# Altium integrated library PowerProducts.IntLib: 595 symbols (part 2 of 6)
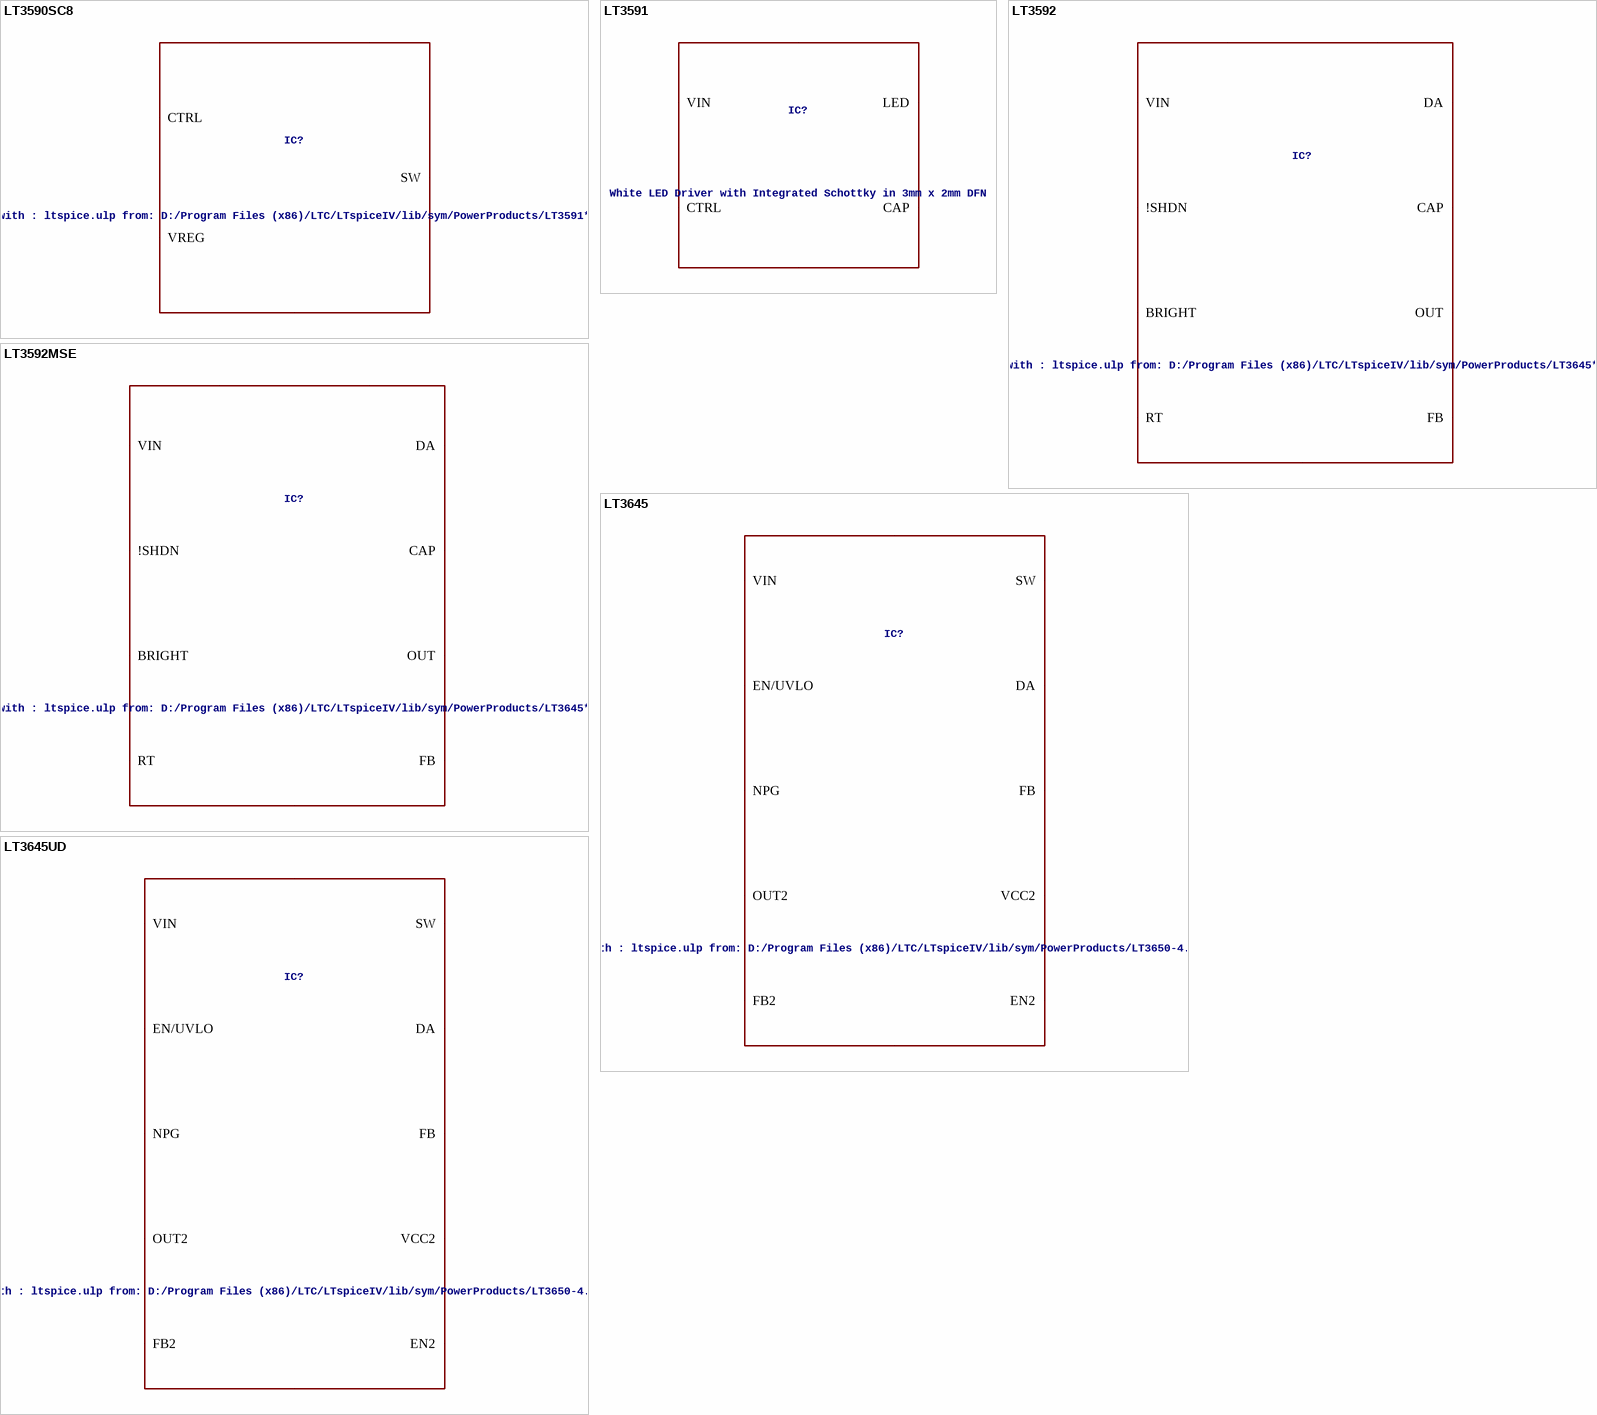
[diagram p113: symbols LT3590SC8 to LT3645UD]

## LT3592MSE
designator IC?, comment LT-Spice library generated with : ltspice.ulp from: D:/Program Files (x86)/LTC/LTspiceIV/lib/sym/PowerProducts/LT3645*.asy at 07.10.2012 16:21:44
VALUE2: LT3592; SPICEMODEL: LT3592.sub; SPICEPREFIX: X
footprint MSOP10(MSE)
pins: 1 RT, 2 BRIGHT, 3 !SHDN, 4 VIN, 5 DA, 6 SW, 7 BOOST, 8 CAP, 9 OUT, 10 FB, 11 GND

## LT3645
designator IC?, comment LT-Spice library generated with : ltspice.ulp from: D:/Program Files (x86)/LTC/LTspiceIV/lib/sym/PowerProducts/LT3650-4.1*.asy at 07.10.2012 16:22:44
VALUE2: LT3645; SPICEMODEL: LT3645.sub; SPICEPREFIX: X
footprint MSOP12(MSE)
pins: 1 EN/UVLO, 2 FB, 3 13 GND, 4 DA, 5 BOOST, 6 SW, 7 VIN, 8 VCC2, 9 OUT2, 10 FB2, 11 EN2, 12 NPG

## LT3645UD
designator IC?, comment LT-Spice library generated with : ltspice.ulp from: D:/Program Files (x86)/LTC/LTspiceIV/lib/sym/PowerProducts/LT3650-4.1*.asy at 07.10.2012 16:22:44
VALUE2: LT3645; SPICEMODEL: LT3645.sub; SPICEPREFIX: X
footprint QFN16(UD)
pins: 3 NPG, 4 EN2, 5 EN/UVLO, 6 FB, 7 17 GND, 8 DA, 9 SW, 10 BOOST, 11 VIN, 14 VCC2, 15 OUT2, 16 FB2

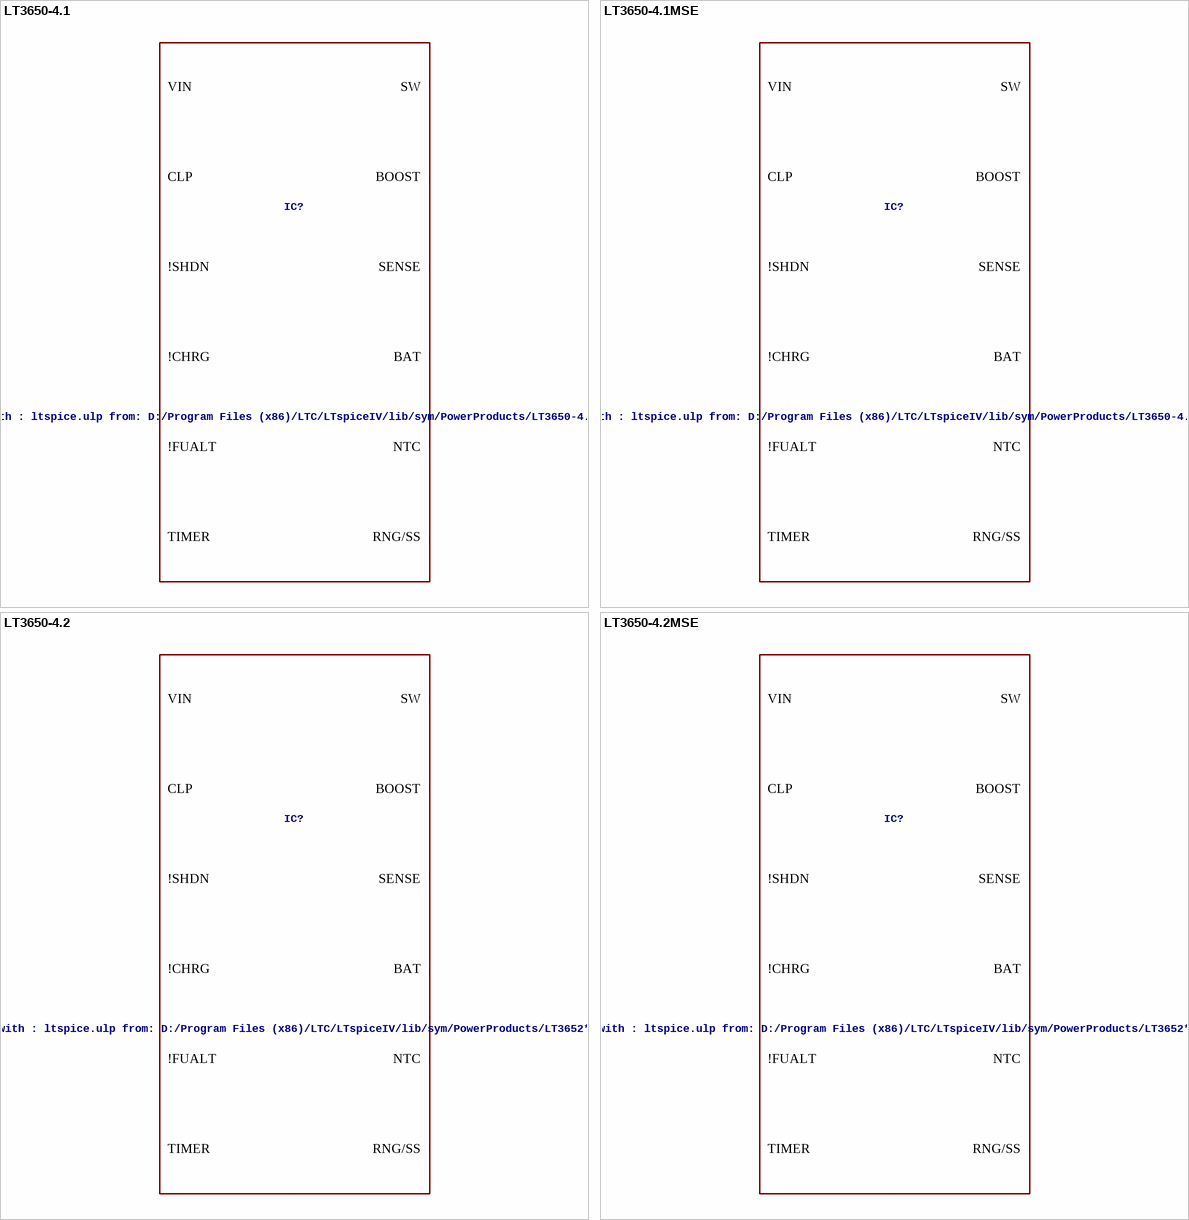
[diagram p20: symbols LT3650-4.1 to LT3650-4.2MSE]

## LT3650-4.1
designator IC?, comment LT-Spice library generated with : ltspice.ulp from: D:/Program Files (x86)/LTC/LTspiceIV/lib/sym/PowerProducts/LT3650-4.2*.asy at 07.10.2012 16:22:54
VALUE2: LT3650-4.1; SPICEMODEL: LT3650-4.1.sub; SPICEPREFIX: X
footprint DFN12(DD)
pins: 1 VIN, 2 CLP, 3 !SHDN, 4 !CHRG, 5 !FUALT, 6 TIMER, 7 RNG/SS, 8 NTC, 9 BAT, 10 SENSE, 11 BOOST, 12 SW, 13 GND

## LT3650-4.1MSE
designator IC?, comment LT-Spice library generated with : ltspice.ulp from: D:/Program Files (x86)/LTC/LTspiceIV/lib/sym/PowerProducts/LT3650-4.2*.asy at 07.10.2012 16:22:54
VALUE2: LT3650-4.1; SPICEMODEL: LT3650-4.1.sub; SPICEPREFIX: X
footprint MSOP12(MSE)
pins: 1 VIN, 2 CLP, 3 !SHDN, 4 !CHRG, 5 !FUALT, 6 TIMER, 7 RNG/SS, 8 NTC, 9 BAT, 10 SENSE, 11 BOOST, 12 SW, 13 GND

## LT3650-4.2
designator IC?, comment LT-Spice library generated with : ltspice.ulp from: D:/Program Files (x86)/LTC/LTspiceIV/lib/sym/PowerProducts/LT3652*.asy at 07.10.2012 16:23:18
VALUE2: LT3650-4.2; SPICEMODEL: LT3650-4.2.sub; SPICEPREFIX: X
footprint DFN12(DD)
pins: 1 VIN, 2 CLP, 3 !SHDN, 4 !CHRG, 5 !FUALT, 6 TIMER, 7 RNG/SS, 8 NTC, 9 BAT, 10 SENSE, 11 BOOST, 12 SW, 13 GND

## LT3650-4.2MSE
designator IC?, comment LT-Spice library generated with : ltspice.ulp from: D:/Program Files (x86)/LTC/LTspiceIV/lib/sym/PowerProducts/LT3652*.asy at 07.10.2012 16:23:18
VALUE2: LT3650-4.2; SPICEMODEL: LT3650-4.2.sub; SPICEPREFIX: X
footprint MSOP12(MSE)
pins: 1 VIN, 2 CLP, 3 !SHDN, 4 !CHRG, 5 !FUALT, 6 TIMER, 7 RNG/SS, 8 NTC, 9 BAT, 10 SENSE, 11 BOOST, 12 SW, 13 GND

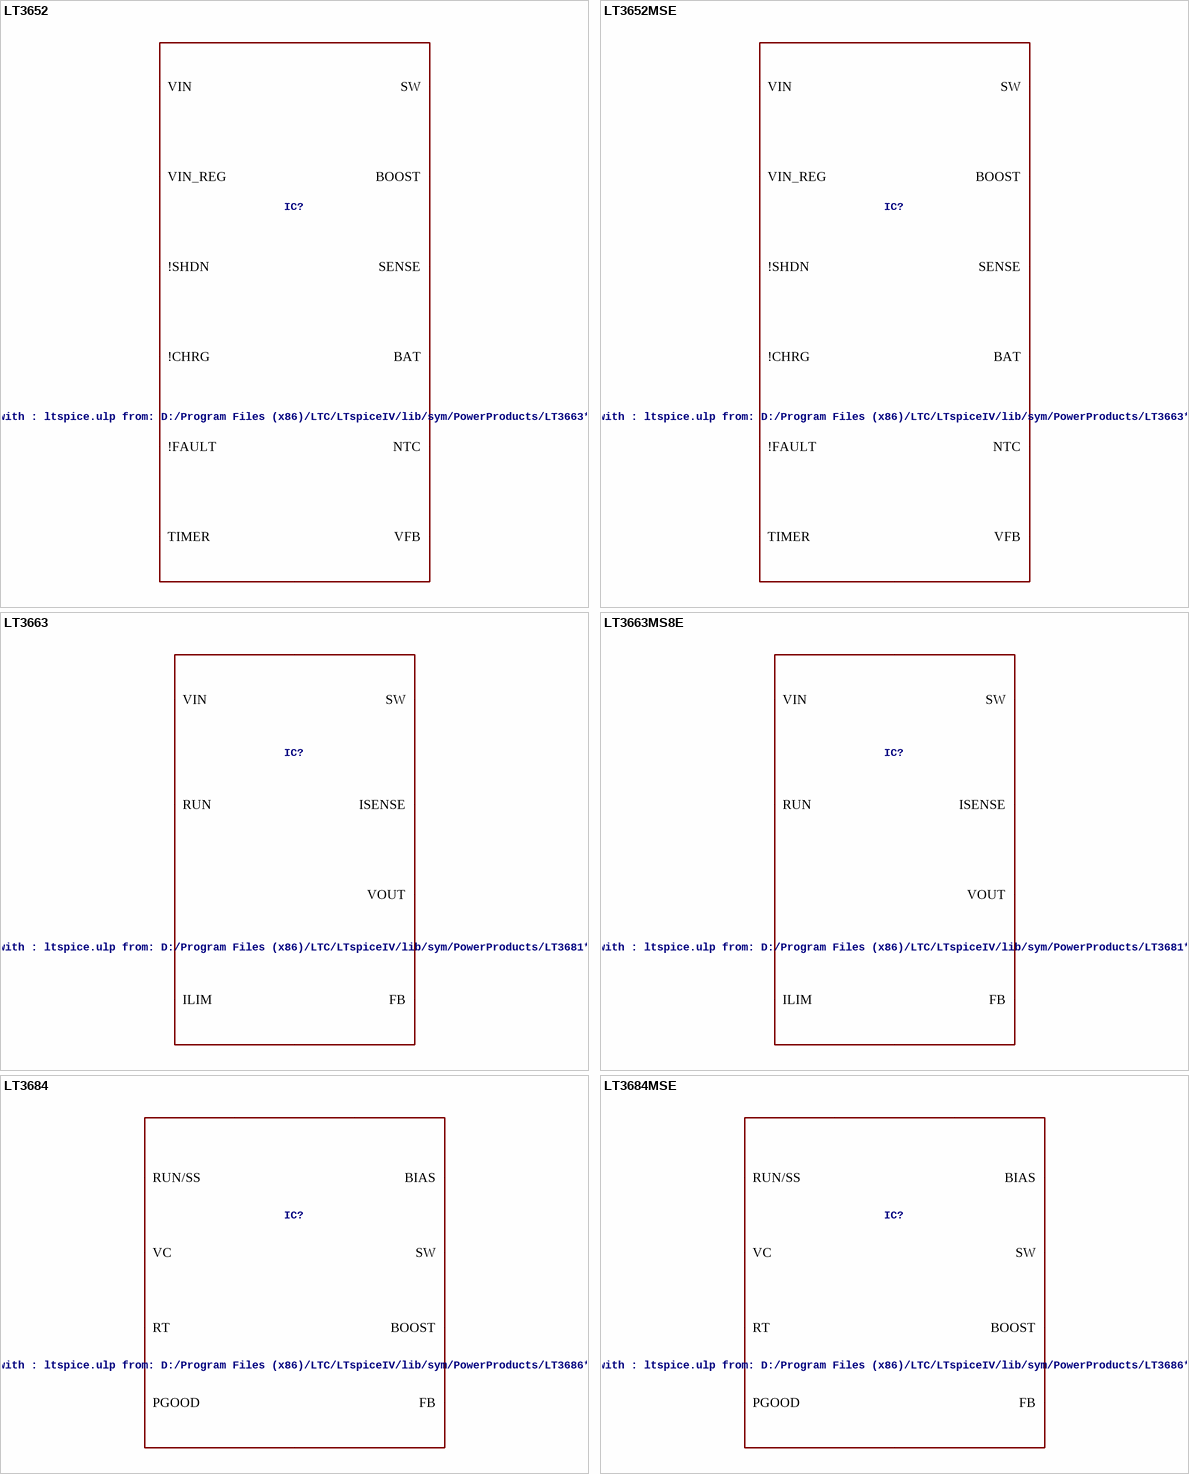
[diagram p21: symbols LT3652 to LT3684MSE]

## LT3652
designator IC?, comment LT-Spice library generated with : ltspice.ulp from: D:/Program Files (x86)/LTC/LTspiceIV/lib/sym/PowerProducts/LT3663*.asy at 07.10.2012 16:23:33
VALUE2: LT3652; SPICEMODEL: LT3652.sub; SPICEPREFIX: X
footprint DFN12(DD)
pins: 1 VIN, 2 VIN_REG, 3 !SHDN, 4 !CHRG, 5 !FAULT, 6 TIMER, 7 VFB, 8 NTC, 9 BAT, 10 SENSE, 11 BOOST, 12 SW, 13 GND

## LT3652MSE
designator IC?, comment LT-Spice library generated with : ltspice.ulp from: D:/Program Files (x86)/LTC/LTspiceIV/lib/sym/PowerProducts/LT3663*.asy at 07.10.2012 16:23:33
VALUE2: LT3652; SPICEMODEL: LT3652.sub; SPICEPREFIX: X
footprint MSOP12(MSE)
pins: 1 VIN, 2 VIN_REG, 3 !SHDN, 4 !CHRG, 5 !FAULT, 6 TIMER, 7 VFB, 8 NTC, 9 BAT, 10 SENSE, 11 BOOST, 12 SW, 13 GND

## LT3663
designator IC?, comment LT-Spice library generated with : ltspice.ulp from: D:/Program Files (x86)/LTC/LTspiceIV/lib/sym/PowerProducts/LT3681*.asy at 07.10.2012 16:31:01
VALUE2: LT3663; SPICEMODEL: LT3663.sub; SPICEPREFIX: X
footprint DFN8(DCB)
pins: 1 VIN, 2 RUN, 3 FB, 4 ILIM, 5 VOUT, 6 ISENSE, 7 BOOST, 8 SW, 9 GND

## LT3663MS8E
designator IC?, comment LT-Spice library generated with : ltspice.ulp from: D:/Program Files (x86)/LTC/LTspiceIV/lib/sym/PowerProducts/LT3681*.asy at 07.10.2012 16:31:01
VALUE2: LT3663; SPICEMODEL: LT3663.sub; SPICEPREFIX: X
footprint MSOP8(MS8E)
pins: 1 VIN, 2 RUN, 3 FB, 4 ILIM, 5 VOUT, 6 ISENSE, 7 BOOST, 8 SW, 9 GND

## LT3684
designator IC?, comment LT-Spice library generated with : ltspice.ulp from: D:/Program Files (x86)/LTC/LTspiceIV/lib/sym/PowerProducts/LT3686*.asy at 07.10.2012 16:34:33
VALUE2: LT3684; SPICEMODEL: LT3684.sub; SPICEPREFIX: X
footprint DFN10(DD)
pins: 1 BD, 2 BOOST, 3 SW, 4 VIN, 5 RUN/SS, 6 PGOOD, 7 BIAS, 8 FB, 9 VC, 10 RT, 11 GND

## LT3684MSE
designator IC?, comment LT-Spice library generated with : ltspice.ulp from: D:/Program Files (x86)/LTC/LTspiceIV/lib/sym/PowerProducts/LT3686*.asy at 07.10.2012 16:34:33
VALUE2: LT3684; SPICEMODEL: LT3684.sub; SPICEPREFIX: X
footprint MSOP10(MSE)
pins: 1 BD, 2 BOOST, 3 SW, 4 VIN, 5 RUN/SS, 6 PGOOD, 7 BIAS, 8 FB, 9 VC, 10 RT, 11 GND

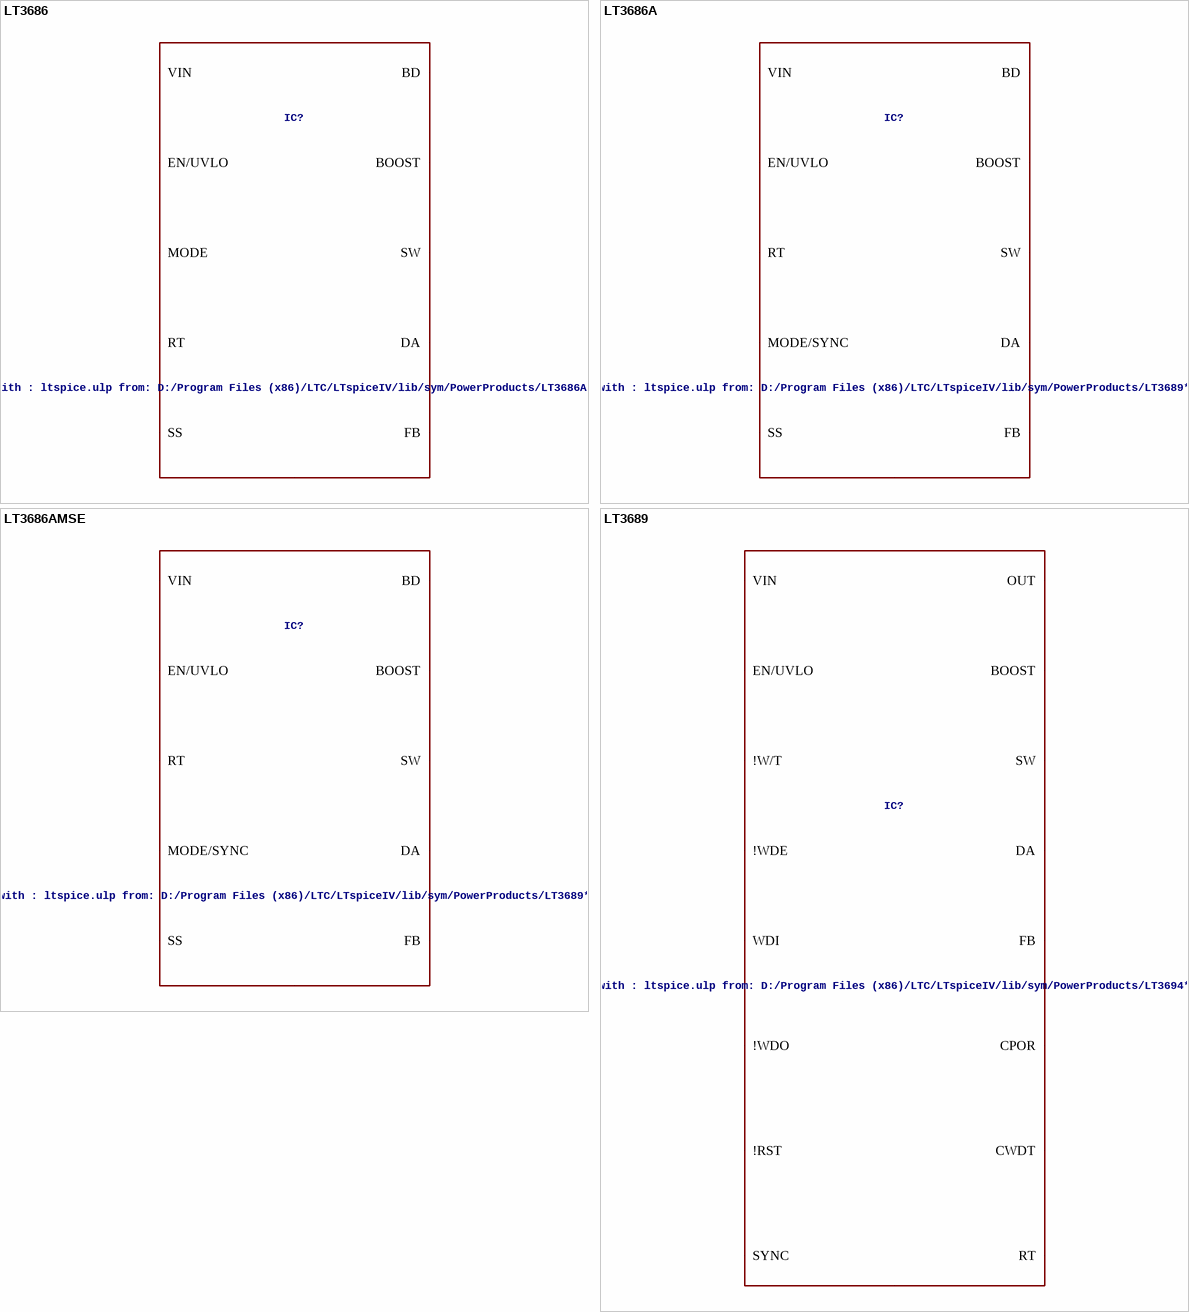
[diagram p22: symbols LT3686 to LT3689]

## LT3686
designator IC?, comment LT-Spice library generated with : ltspice.ulp from: D:/Program Files (x86)/LTC/LTspiceIV/lib/sym/PowerProducts/LT3686A*.asy at 07.10.2012 16:34:43
VALUE2: LT3686; SPICEMODEL: LT3686.sub; SPICEPREFIX: X
footprint DFN10(DD)
pins: 1 VIN, 2 BD, 3 FB, 4 SS, 5 RT, 6 EN/UVLO, 7 MODE, 8 BOOST, 9 DA, 10 SW, 11 GND

## LT3686A
designator IC?, comment LT-Spice library generated with : ltspice.ulp from: D:/Program Files (x86)/LTC/LTspiceIV/lib/sym/PowerProducts/LT3689*.asy at 07.10.2012 16:34:52
VALUE2: LT3686A; SPICEMODEL: LT3686A.sub; SPICEPREFIX: X
footprint DFN10(DD)
pins: 1 VIN, 2 BD, 3 FB, 4 SS, 5 RT, 6 EN/UVLO, 7 MODE/SYNC, 8 BOOST, 9 DA, 10 SW, 11 GND

## LT3686AMSE
designator IC?, comment LT-Spice library generated with : ltspice.ulp from: D:/Program Files (x86)/LTC/LTspiceIV/lib/sym/PowerProducts/LT3689*.asy at 07.10.2012 16:34:52
VALUE2: LT3686A; SPICEMODEL: LT3686A.sub; SPICEPREFIX: X
footprint MSOP12(MSE)
pins: 1 13 GND, 2 VIN, 3 BD, 4 FB, 5 SS, 6 RT, 7 EN/UVLO, 8 MODE/SYNC, 9 BOOST, 10 DA, 11 12 SW

## LT3689
designator IC?, comment LT-Spice library generated with : ltspice.ulp from: D:/Program Files (x86)/LTC/LTspiceIV/lib/sym/PowerProducts/LT3694*.asy at 07.10.2012 16:35:03
VALUE2: LT3689; SPICEMODEL: LT3689.sub; SPICEPREFIX: X
footprint MSOP16(MSE)
pins: 1 !WDO, 2 CWDT, 3 CPOR, 4 RT, 5 SYNC, 6 OUT, 7 BOOST, 8 VIN, 9 SW, 10 DA, 11 EN/UVLO, 12 FB, 13 !WDE, 14 !W/T, 15 WDI, 16 !RST, 17 GND

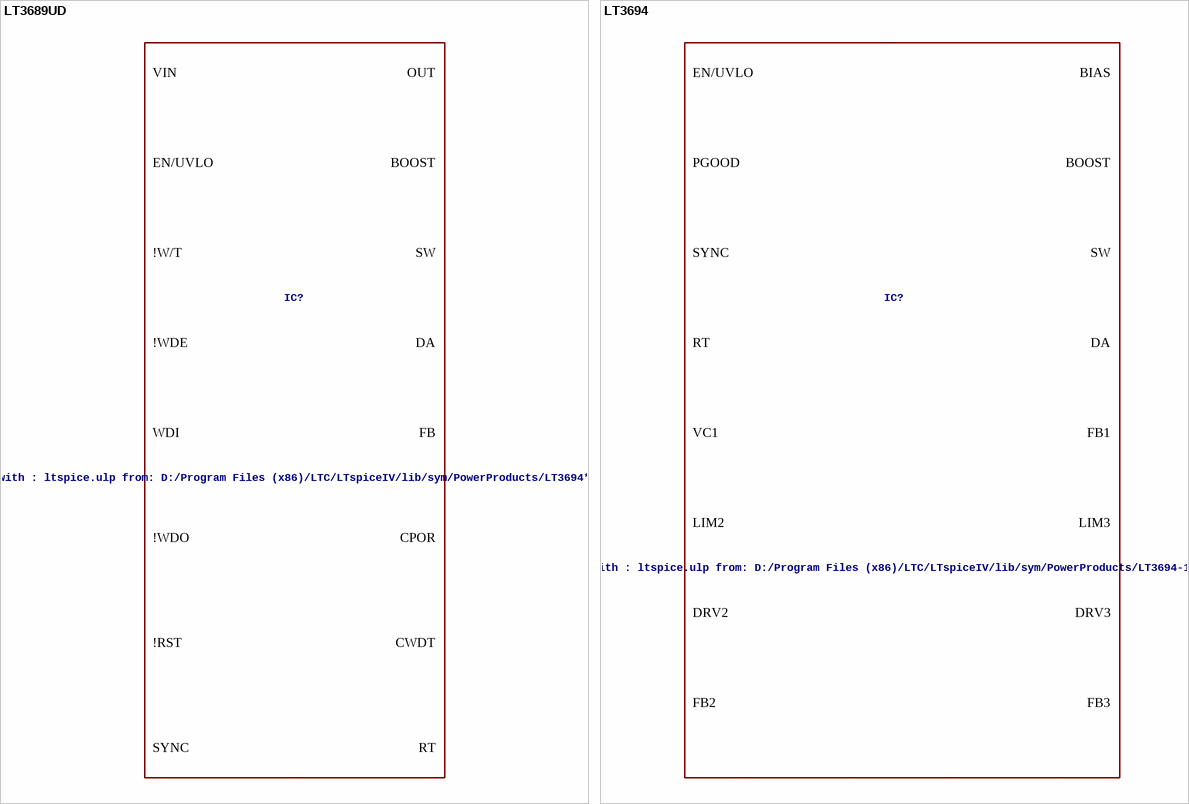
[diagram p23: symbols LT3689UD to LT3694]

## LT3689UD
designator IC?, comment LT-Spice library generated with : ltspice.ulp from: D:/Program Files (x86)/LTC/LTspiceIV/lib/sym/PowerProducts/LT3694*.asy at 07.10.2012 16:35:03
VALUE2: LT3689; SPICEMODEL: LT3689.sub; SPICEPREFIX: X
footprint QFN16(UD)
pins: 1 BOOST, 2 VIN, 3 SW, 4 DA, 5 EN/UVLO, 6 FB, 7 !WDE, 8 !W/T, 9 WDI, 10 !RST, 11 !WDO, 12 CWDT, 13 CPOR, 14 RT, 15 SYNC, 16 OUT, 17 GND

## LT3694
designator IC?, comment LT-Spice library generated with : ltspice.ulp from: D:/Program Files (x86)/LTC/LTspiceIV/lib/sym/PowerProducts/LT3694-1*.asy at 07.10.2012 16:35:16
VALUE2: LT3694; SPICEMODEL: LT3694.sub; SPICEPREFIX: X
footprint TSSOP20CB(FE)
pins: 1 VIN, 2 EN/UVLO, 3 SYNC, 4 PGOOD, 5 RT, 6 TRK/SS1, 7 TRK/SS2, 8 FB2, 9 DRV2, 10 LIM2, 11 LIM3, 12 DRV3, 13 FB3, 14 TRK/SS3, 15 FB1, 16 VC1, 17 BIAS, 18 BOOST, 19 DA, 20 SW, 21 GND

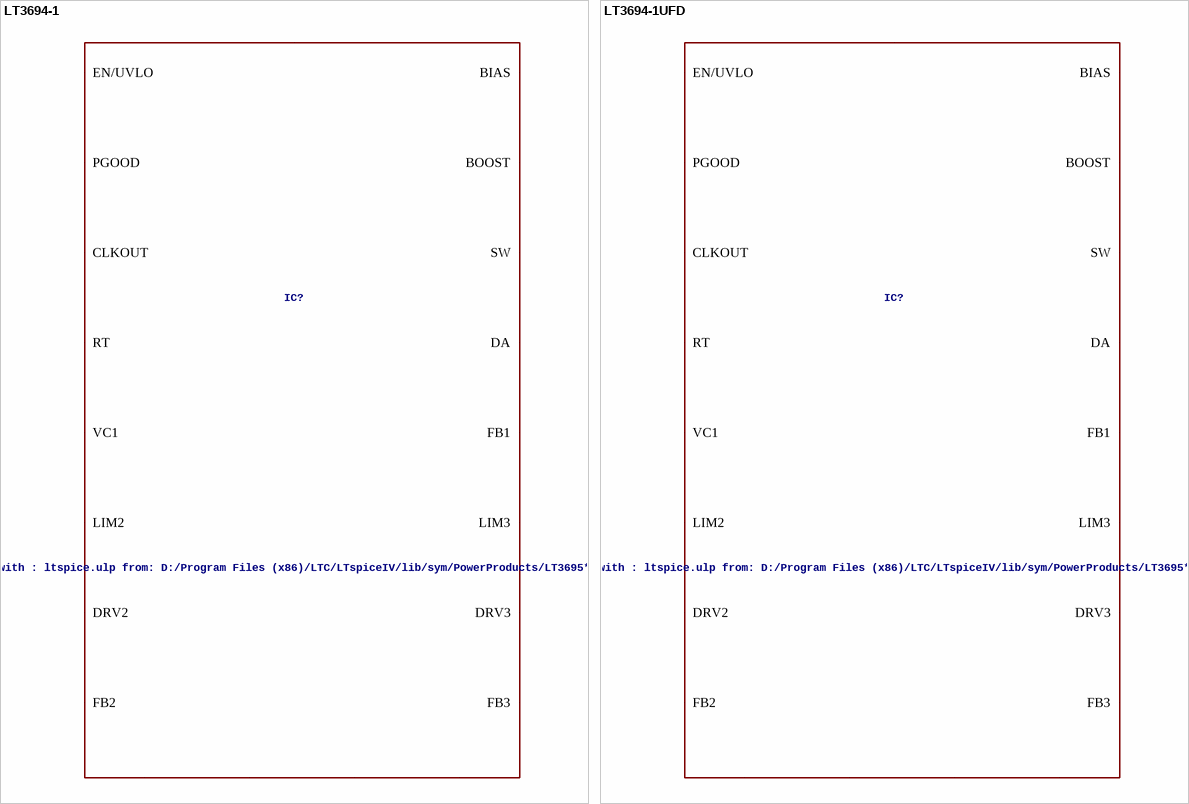
[diagram p24: symbols LT3694-1 to LT3694-1UFD]

## LT3694-1
designator IC?, comment LT-Spice library generated with : ltspice.ulp from: D:/Program Files (x86)/LTC/LTspiceIV/lib/sym/PowerProducts/LT3695*.asy at 07.10.2012 16:35:30
VALUE2: LT3694-1; SPICEMODEL: LT3694-1.sub; SPICEPREFIX: X
footprint TSSOP20CB(FE)
pins: 1 VIN, 2 EN/UVLO, 3 CLKOUT, 4 PGOOD, 5 RT, 6 TRK/SS1, 7 TRK/SS2, 8 FB2, 9 DRV2, 10 LIM2, 11 LIM3, 12 DRV3, 13 FB3, 14 TRK/SS3, 15 FB1, 16 VC1, 17 BIAS, 18 BOOST, 19 DA, 20 SW, 21 GND

## LT3694-1UFD
designator IC?, comment LT-Spice library generated with : ltspice.ulp from: D:/Program Files (x86)/LTC/LTspiceIV/lib/sym/PowerProducts/LT3695*.asy at 07.10.2012 16:35:30
VALUE2: LT3694-1; SPICEMODEL: LT3694-1.sub; SPICEPREFIX: X
footprint QFN28(UFD)
pins: 1 EN/UVLO, 2 CLKOUT, 3 PGOOD, 4 RT, 5 TRK/SS1, 6 TRK/SS2, 7 FB2, 8 DRV2, 9 LIM2, 10 11 12 13 25 26 29 GND, 14 LIM3, 15 DRV3, 16 FB3, 17 TRK/SS3, 18 FB1, 19 VC1, 20 BIAS, 21 BOOST, 22 DA, 23 24 SW, 27 28 VIN

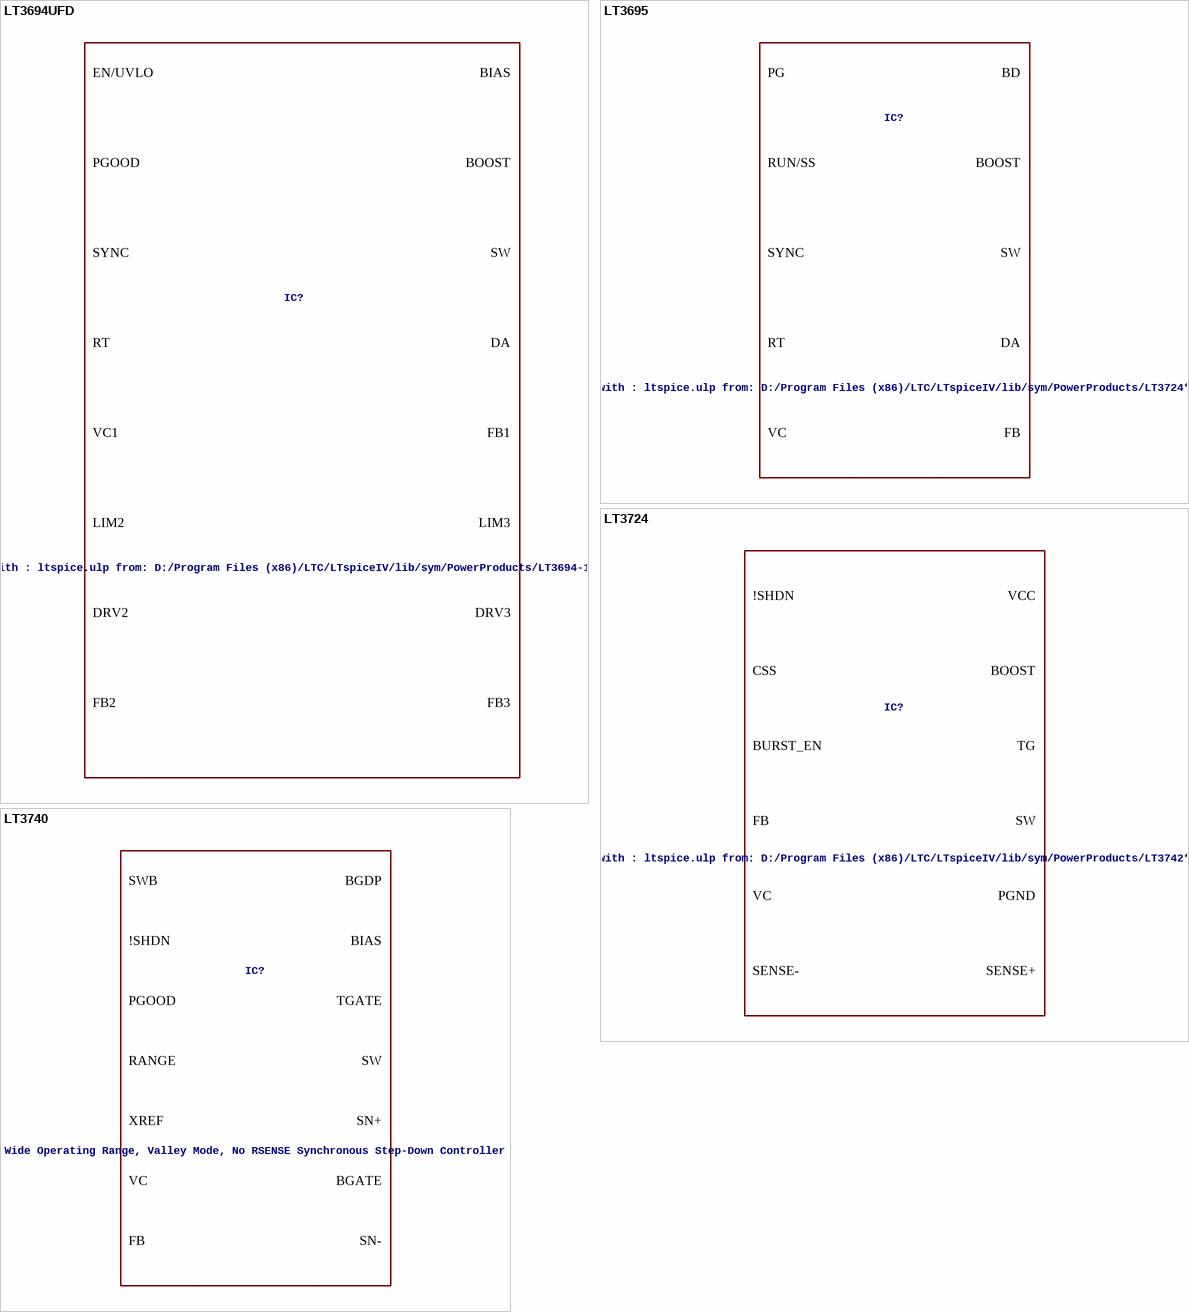
[diagram p25: symbols LT3694UFD to LT3740]

## LT3694UFD
designator IC?, comment LT-Spice library generated with : ltspice.ulp from: D:/Program Files (x86)/LTC/LTspiceIV/lib/sym/PowerProducts/LT3694-1*.asy at 07.10.2012 16:35:16
VALUE2: LT3694; SPICEMODEL: LT3694.sub; SPICEPREFIX: X
footprint QFN28(UFD)
pins: 1 EN/UVLO, 2 SYNC, 3 PGOOD, 4 RT, 5 TRK/SS1, 6 TRK/SS2, 7 FB2, 8 DRV2, 9 LIM2, 10 11 12 13 25 26 29 GND, 14 LIM3, 15 DRV3, 16 FB3, 17 TRK/SS3, 18 FB1, 19 VC1, 20 BIAS, 21 BOOST, 22 DA, 23 24 SW, 27 28 VIN

## LT3695
designator IC?, comment LT-Spice library generated with : ltspice.ulp from: D:/Program Files (x86)/LTC/LTspiceIV/lib/sym/PowerProducts/LT3724*.asy at 07.10.2012 16:35:49
VALUE2: LT3695; SPICEMODEL: LT3695.sub; SPICEPREFIX: X
footprint MSOP16(MSE)
pins: 1 17 PGND, 2 DA, 4 SW, 5 RUN/SS, 6 RT, 7 SYNC, 8 VIN, 9 VC, 11 FB, 13 PG, 14 GND, 15 BD, 16 BOOST

## LT3724
designator IC?, comment LT-Spice library generated with : ltspice.ulp from: D:/Program Files (x86)/LTC/LTspiceIV/lib/sym/PowerProducts/LT3742*.asy at 07.10.2012 16:36:06
VALUE2: LT3724; SPICEMODEL: LT3724.sub; SPICEPREFIX: X
footprint TSSOP16BC(FE)
pins: 1 VIN, 3 !SHDN, 4 CSS, 5 BURST_EN, 6 FB, 7 VC, 8 17 SGND, 9 SENSE-, 10 SENSE+, 11 PGND, 12 VCC, 14 SW, 15 TG, 16 BOOST

## LT3740
designator IC?, comment Wide Operating Range, Valley Mode, No RSENSE Synchronous Step-Down Controller
VALUE2: LT1762; SPICEMODEL: LT1762.lib; SPICEPREFIX: X
footprint DFN16(DHC)
pins: 1 SN-, 2 PGND, 3 BGATE, 4 BGDP, 5 SN+, 6 SW, 7 TGATE, 8 BIAS, 9 SWB, 10 VIN, 11 RANGE, 12 PGOOD, 13 !SHDN, 14 XREF, 15 FB, 16 VC, 17 GND

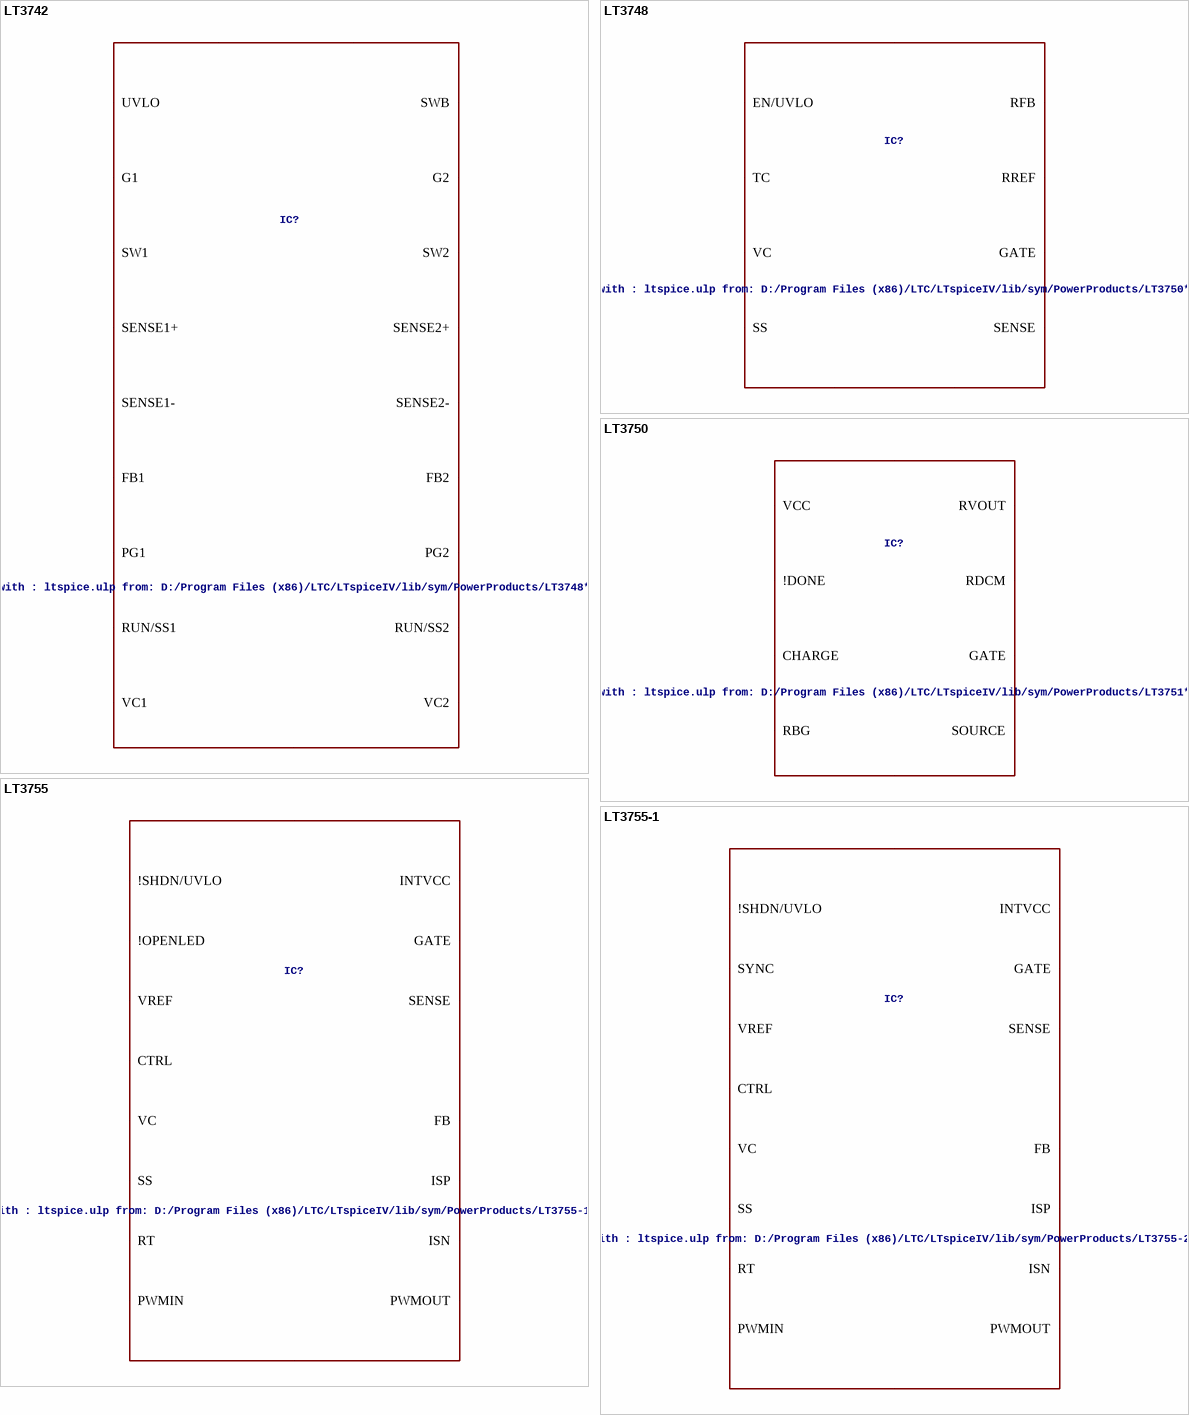
[diagram p26: symbols LT3742 to LT3755-1]

## LT3742
designator IC?, comment LT-Spice library generated with : ltspice.ulp from: D:/Program Files (x86)/LTC/LTspiceIV/lib/sym/PowerProducts/LT3748*.asy at 07.10.2012 16:36:13
VALUE2: LT3742; SPICEMODEL: LT3742.sub; SPICEPREFIX: X
footprint QFN24(UF)
pins: 1 G1, 2 VIN, 3 UVLO, 4 BIAS, 5 SWB, 6 G2, 7 SW2, 10 SENSE2+, 11 SENSE2-, 12 FB2, 13 VC2, 14 PG2, 15 RUN/SS2, 16 RUN/SS1, 17 PG1, 18 VC1, 19 FB1, 20 SENSE1-, 21 SENSE1+, 24 SW1, 25 GND

## LT3748
designator IC?, comment LT-Spice library generated with : ltspice.ulp from: D:/Program Files (x86)/LTC/LTspiceIV/lib/sym/PowerProducts/LT3750*.asy at 07.10.2012 16:36:28
VALUE2: LT3748; SPICEMODEL: LT3748.sub; SPICEPREFIX: X
footprint MSOP16-12(MS)
pins: 1 VIN, 3 EN/UVLO, 5 INTVCC, 6 GATE, 7 SENSE, 8 9 GND, 10 SS, 11 VC, 12 TC, 14 RREF, 16 RFB

## LT3750
designator IC?, comment LT-Spice library generated with : ltspice.ulp from: D:/Program Files (x86)/LTC/LTspiceIV/lib/sym/PowerProducts/LT3751*.asy at 07.10.2012 16:36:34
VALUE2: LT3750; SPICEMODEL: LT3750.sub; SPICEPREFIX: X
footprint MSOP10(MS)
pins: 1 VTRANS, 2 !DONE, 3 CHARGE, 4 VCC, 5 GND, 6 SOURCE, 7 GATE, 8 RDCM, 9 RVOUT, 10 RBG

## LT3755
designator IC?, comment LT-Spice library generated with : ltspice.ulp from: D:/Program Files (x86)/LTC/LTspiceIV/lib/sym/PowerProducts/LT3755-1*.asy at 07.10.2012 16:42:55
VALUE2: LT3755; SPICEMODEL: LT3755.sub; SPICEPREFIX: X
footprint MSOP16(MSE)
pins: 1 PWMOUT, 2 FB, 3 ISN, 4 ISP, 5 VC, 6 CTRL, 7 VREF, 8 PWMIN, 9 !OPENLED, 10 SS, 11 RT, 12 !SHDN/UVLO, 13 INTVCC, 14 VIN, 15 SENSE, 16 GATE, 17 GND

## LT3755-1
designator IC?, comment LT-Spice library generated with : ltspice.ulp from: D:/Program Files (x86)/LTC/LTspiceIV/lib/sym/PowerProducts/LT3755-2*.asy at 07.10.2012 16:43:02
VALUE2: LT3755-1; SPICEMODEL: LT3755-1.sub; SPICEPREFIX: X
footprint MSOP16(MSE)
pins: 1 PWMOUT, 2 FB, 3 ISN, 4 ISP, 5 VC, 6 CTRL, 7 VREF, 8 PWMIN, 9 SYNC, 10 SS, 11 RT, 12 !SHDN/UVLO, 13 INTVCC, 14 VIN, 15 SENSE, 16 GATE, 17 GND

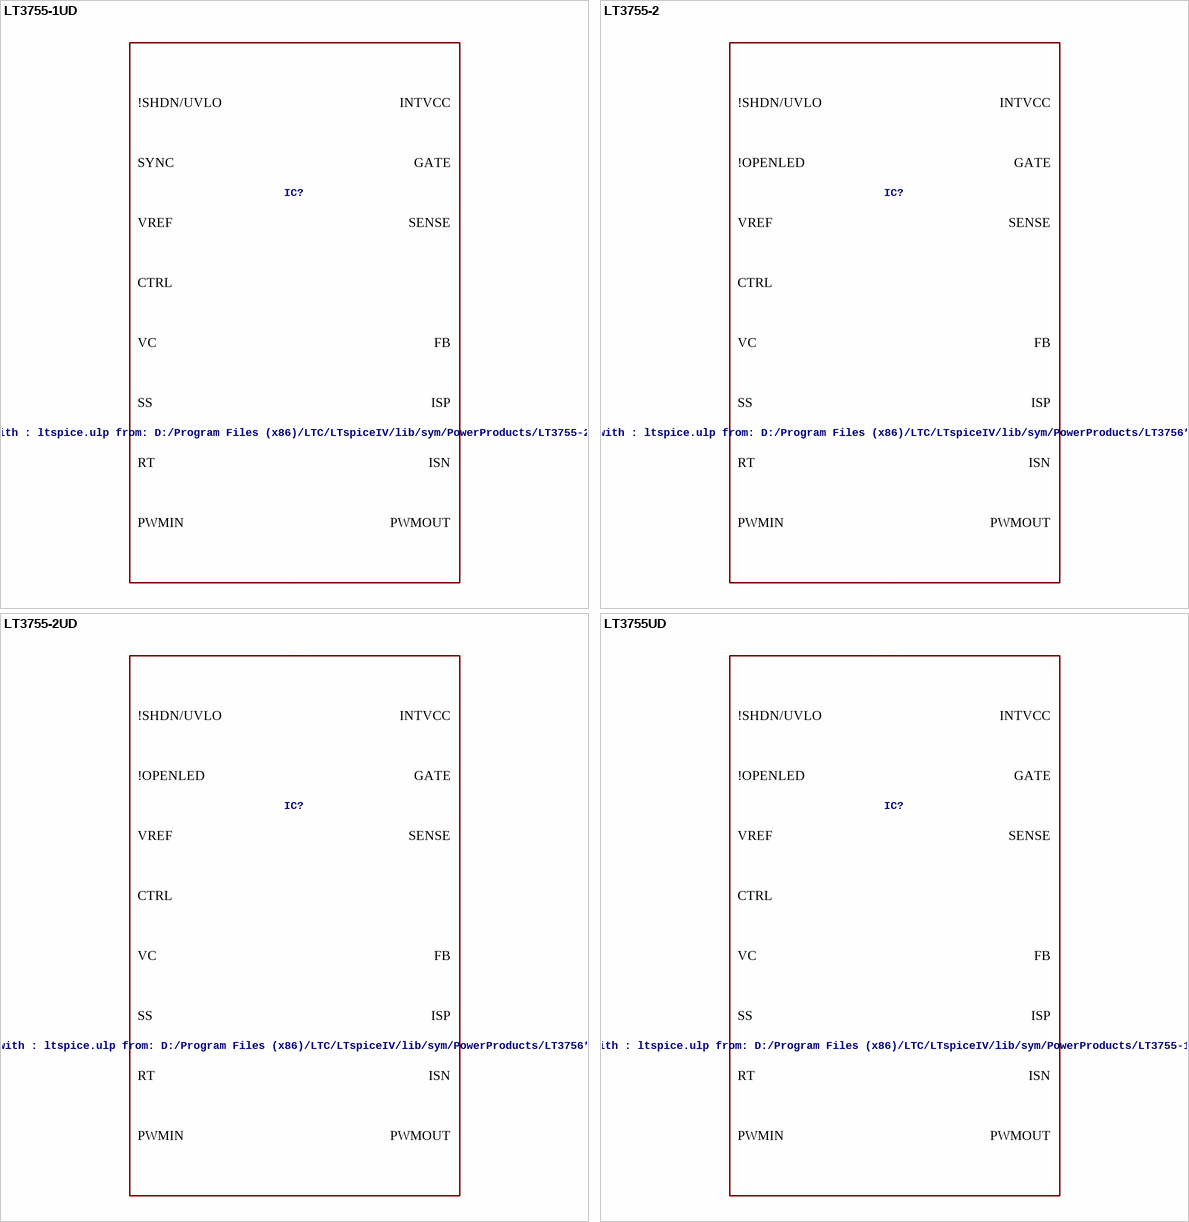
[diagram p27: symbols LT3755-1UD to LT3755UD]

## LT3755-1UD
designator IC?, comment LT-Spice library generated with : ltspice.ulp from: D:/Program Files (x86)/LTC/LTspiceIV/lib/sym/PowerProducts/LT3755-2*.asy at 07.10.2012 16:43:02
VALUE2: LT3755-1; SPICEMODEL: LT3755-1.sub; SPICEPREFIX: X
footprint QFN16(UD)
pins: 1 VREF, 2 PWMIN, 3 SYNC, 4 SS, 5 RT, 6 !SHDN/UVLO, 7 INTVCC, 8 VIN, 9 SENSE, 10 GATE, 11 PWMOUT, 12 FB, 13 ISN, 14 ISP, 15 VC, 16 CTRL, 17 GND

## LT3755-2
designator IC?, comment LT-Spice library generated with : ltspice.ulp from: D:/Program Files (x86)/LTC/LTspiceIV/lib/sym/PowerProducts/LT3756*.asy at 07.10.2012 16:43:11
VALUE2: LT3755; SPICEMODEL: LT3755.sub; SPICEPREFIX: X
footprint MSOP16(MSE)
pins: 1 PWMOUT, 2 FB, 3 ISN, 4 ISP, 5 VC, 6 CTRL, 7 VREF, 8 PWMIN, 9 !OPENLED, 10 SS, 11 RT, 12 !SHDN/UVLO, 13 INTVCC, 14 VIN, 15 SENSE, 16 GATE, 17 GND

## LT3755-2UD
designator IC?, comment LT-Spice library generated with : ltspice.ulp from: D:/Program Files (x86)/LTC/LTspiceIV/lib/sym/PowerProducts/LT3756*.asy at 07.10.2012 16:43:11
VALUE2: LT3755; SPICEMODEL: LT3755.sub; SPICEPREFIX: X
footprint QFN16(UD)
pins: 1 VREF, 2 PWMIN, 3 !OPENLED, 4 SS, 5 RT, 6 !SHDN/UVLO, 7 INTVCC, 8 VIN, 9 SENSE, 10 GATE, 11 PWMOUT, 12 FB, 13 ISN, 14 ISP, 15 VC, 16 CTRL, 17 GND

## LT3755UD
designator IC?, comment LT-Spice library generated with : ltspice.ulp from: D:/Program Files (x86)/LTC/LTspiceIV/lib/sym/PowerProducts/LT3755-1*.asy at 07.10.2012 16:42:55
VALUE2: LT3755; SPICEMODEL: LT3755.sub; SPICEPREFIX: X
footprint QFN16(UD)
pins: 1 VREF, 2 PWMIN, 3 !OPENLED, 4 SS, 5 RT, 6 !SHDN/UVLO, 7 INTVCC, 8 VIN, 9 SENSE, 10 GATE, 11 PWMOUT, 12 FB, 13 ISN, 14 ISP, 15 VC, 16 CTRL, 17 GND

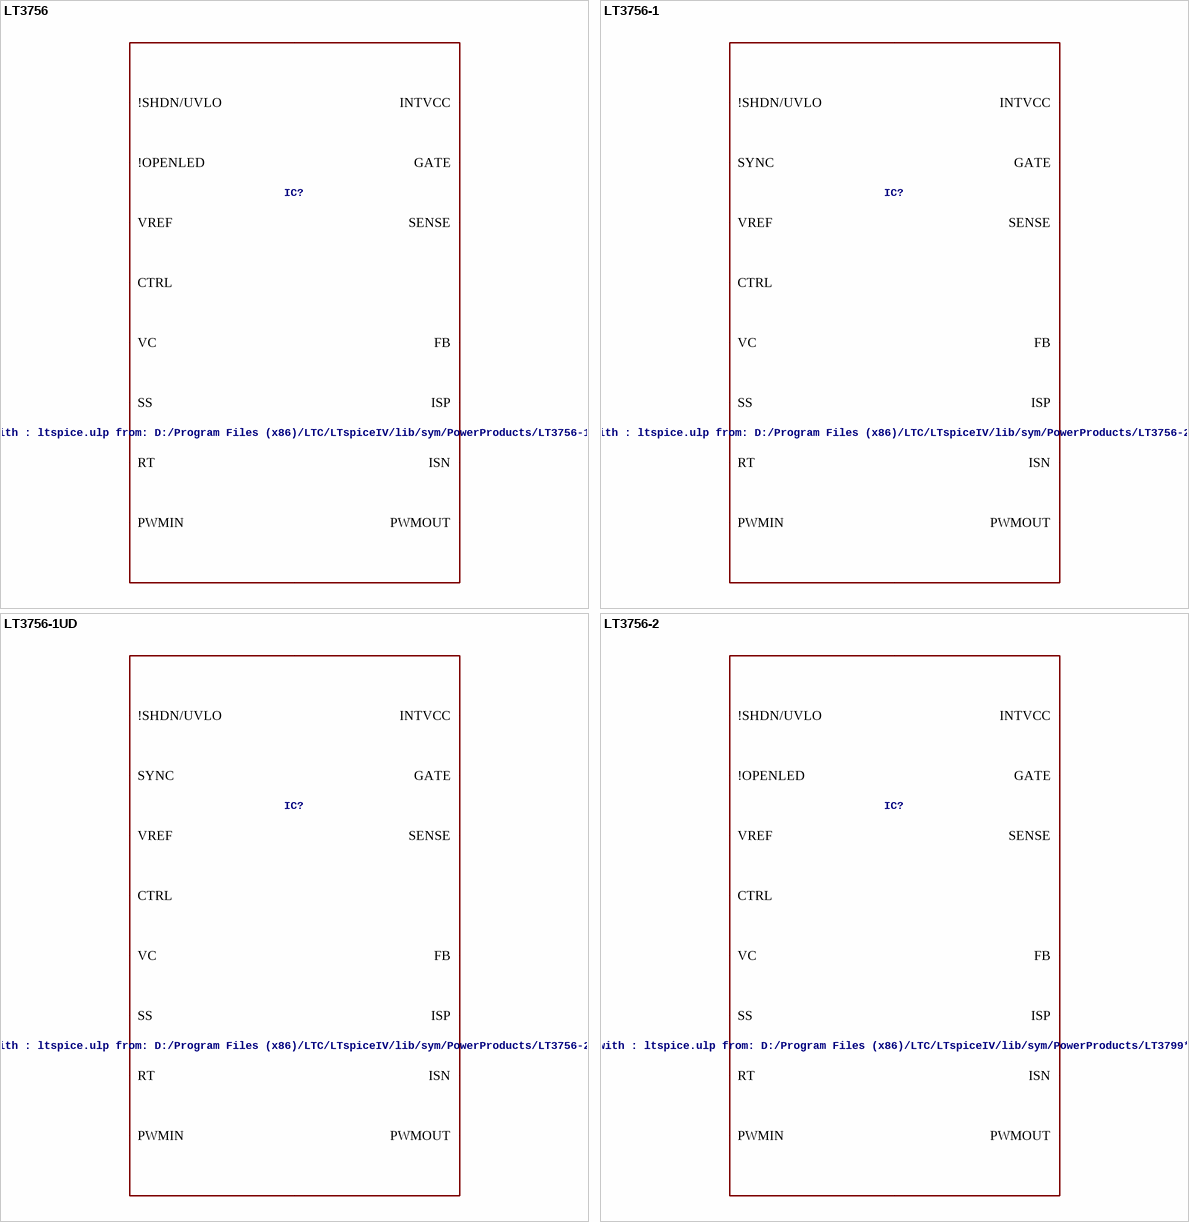
[diagram p28: symbols LT3756 to LT3756-2]

## LT3756
designator IC?, comment LT-Spice library generated with : ltspice.ulp from: D:/Program Files (x86)/LTC/LTspiceIV/lib/sym/PowerProducts/LT3756-1*.asy at 07.10.2012 16:43:21
VALUE2: LT3756; SPICEMODEL: LT3756.sub; SPICEPREFIX: X
footprint MSOP16(MSE)
pins: 1 PWMOUT, 2 FB, 3 ISN, 4 ISP, 5 VC, 6 CTRL, 7 VREF, 8 PWMIN, 9 !OPENLED, 10 SS, 11 RT, 12 !SHDN/UVLO, 13 INTVCC, 14 VIN, 15 SENSE, 16 GATE, 17 GND

## LT3756-1
designator IC?, comment LT-Spice library generated with : ltspice.ulp from: D:/Program Files (x86)/LTC/LTspiceIV/lib/sym/PowerProducts/LT3756-2*.asy at 07.10.2012 16:43:29
VALUE2: LT3756-1; SPICEMODEL: LT3756-1.sub; SPICEPREFIX: X
footprint MSOP16(MSE)
pins: 1 PWMOUT, 2 FB, 3 ISN, 4 ISP, 5 VC, 6 CTRL, 7 VREF, 8 PWMIN, 9 SYNC, 10 SS, 11 RT, 12 !SHDN/UVLO, 13 INTVCC, 14 VIN, 15 SENSE, 16 GATE, 17 GND

## LT3756-1UD
designator IC?, comment LT-Spice library generated with : ltspice.ulp from: D:/Program Files (x86)/LTC/LTspiceIV/lib/sym/PowerProducts/LT3756-2*.asy at 07.10.2012 16:43:29
VALUE2: LT3756-1; SPICEMODEL: LT3756-1.sub; SPICEPREFIX: X
footprint QFN16(UD)
pins: 1 VREF, 2 PWMIN, 3 SYNC, 4 SS, 5 RT, 6 !SHDN/UVLO, 7 INTVCC, 8 VIN, 9 SENSE, 10 GATE, 11 PWMOUT, 12 FB, 13 ISN, 14 ISP, 15 VC, 16 CTRL, 17 GND

## LT3756-2
designator IC?, comment LT-Spice library generated with : ltspice.ulp from: D:/Program Files (x86)/LTC/LTspiceIV/lib/sym/PowerProducts/LT3799*.asy at 07.10.2012 16:43:43
VALUE2: LT3756; SPICEMODEL: LT3756.sub; SPICEPREFIX: X
footprint MSOP16(MSE)
pins: 1 PWMOUT, 2 FB, 3 ISN, 4 ISP, 5 VC, 6 CTRL, 7 VREF, 8 PWMIN, 9 !OPENLED, 10 SS, 11 RT, 12 !SHDN/UVLO, 13 INTVCC, 14 VIN, 15 SENSE, 16 GATE, 17 GND

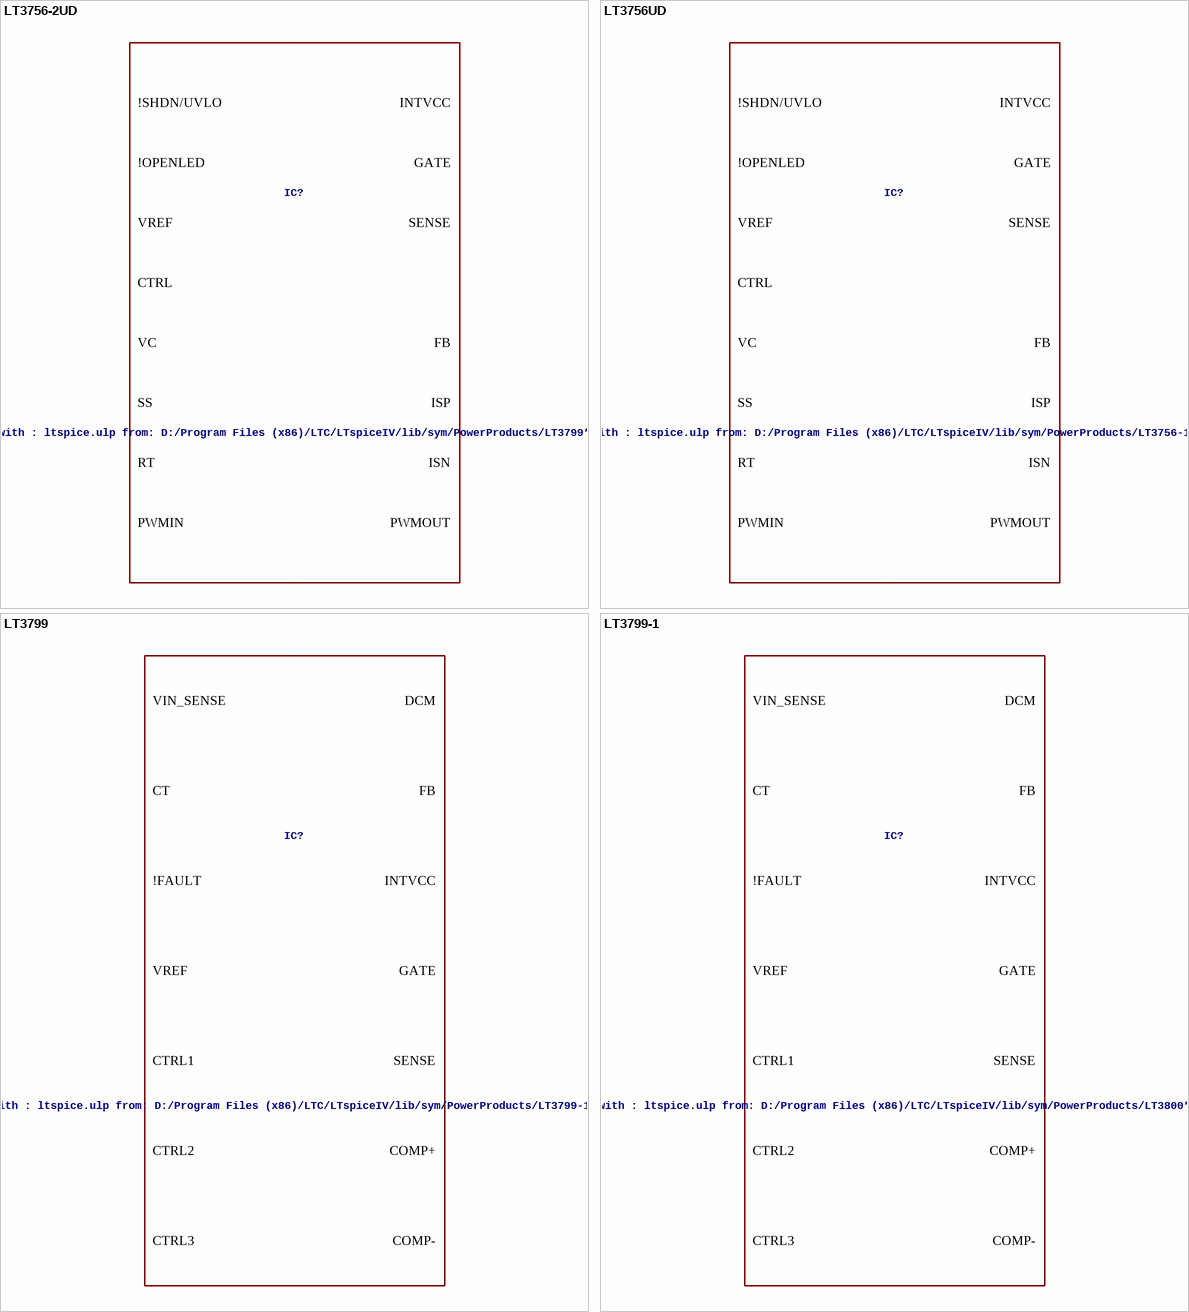
[diagram p29: symbols LT3756-2UD to LT3799-1]

## LT3756-2UD
designator IC?, comment LT-Spice library generated with : ltspice.ulp from: D:/Program Files (x86)/LTC/LTspiceIV/lib/sym/PowerProducts/LT3799*.asy at 07.10.2012 16:43:43
VALUE2: LT3756; SPICEMODEL: LT3756.sub; SPICEPREFIX: X
footprint QFN16(UD)
pins: 1 VREF, 2 PWMIN, 3 !OPENLED, 4 SS, 5 RT, 6 !SHDN/UVLO, 7 INTVCC, 8 VIN, 9 SENSE, 10 GATE, 11 PWMOUT, 12 FB, 13 ISN, 14 ISP, 15 VC, 16 CTRL, 17 GND

## LT3756UD
designator IC?, comment LT-Spice library generated with : ltspice.ulp from: D:/Program Files (x86)/LTC/LTspiceIV/lib/sym/PowerProducts/LT3756-1*.asy at 07.10.2012 16:43:21
VALUE2: LT3756; SPICEMODEL: LT3756.sub; SPICEPREFIX: X
footprint QFN16(UD)
pins: 1 VREF, 2 PWMIN, 3 !OPENLED, 4 SS, 5 RT, 6 !SHDN/UVLO, 7 INTVCC, 8 VIN, 9 SENSE, 10 GATE, 11 PWMOUT, 12 FB, 13 ISN, 14 ISP, 15 VC, 16 CTRL, 17 GND

## LT3799
designator IC?, comment LT-Spice library generated with : ltspice.ulp from: D:/Program Files (x86)/LTC/LTspiceIV/lib/sym/PowerProducts/LT3799-1*.asy at 07.10.2012 16:43:59
VALUE2: LT3799; SPICEMODEL: LT3799.sub; SPICEPREFIX: X
footprint MSOP16(MSE)
pins: 1 CTRL1, 2 CTRL2, 3 CTRL3, 4 VREF, 5 !FAULT, 6 CT, 7 COMP+, 8 COMP-, 9 FB, 10 DCM, 11 VIN, 13 INTVCC, 14 GATE, 15 SENSE, 16 VIN_SENSE, 17 GND

## LT3799-1
designator IC?, comment LT-Spice library generated with : ltspice.ulp from: D:/Program Files (x86)/LTC/LTspiceIV/lib/sym/PowerProducts/LT3800*.asy at 07.10.2012 16:44:11
VALUE2: LT3799-1; SPICEMODEL: LT3799-1.sub; SPICEPREFIX: X
footprint MSOP16(MSE)
pins: 1 CTRL1, 2 CTRL2, 3 CTRL3, 4 VREF, 5 !FAULT, 6 CT, 7 COMP+, 8 COMP-, 9 FB, 10 DCM, 11 VIN, 13 INTVCC, 14 GATE, 15 SENSE, 16 VIN_SENSE, 17 GND

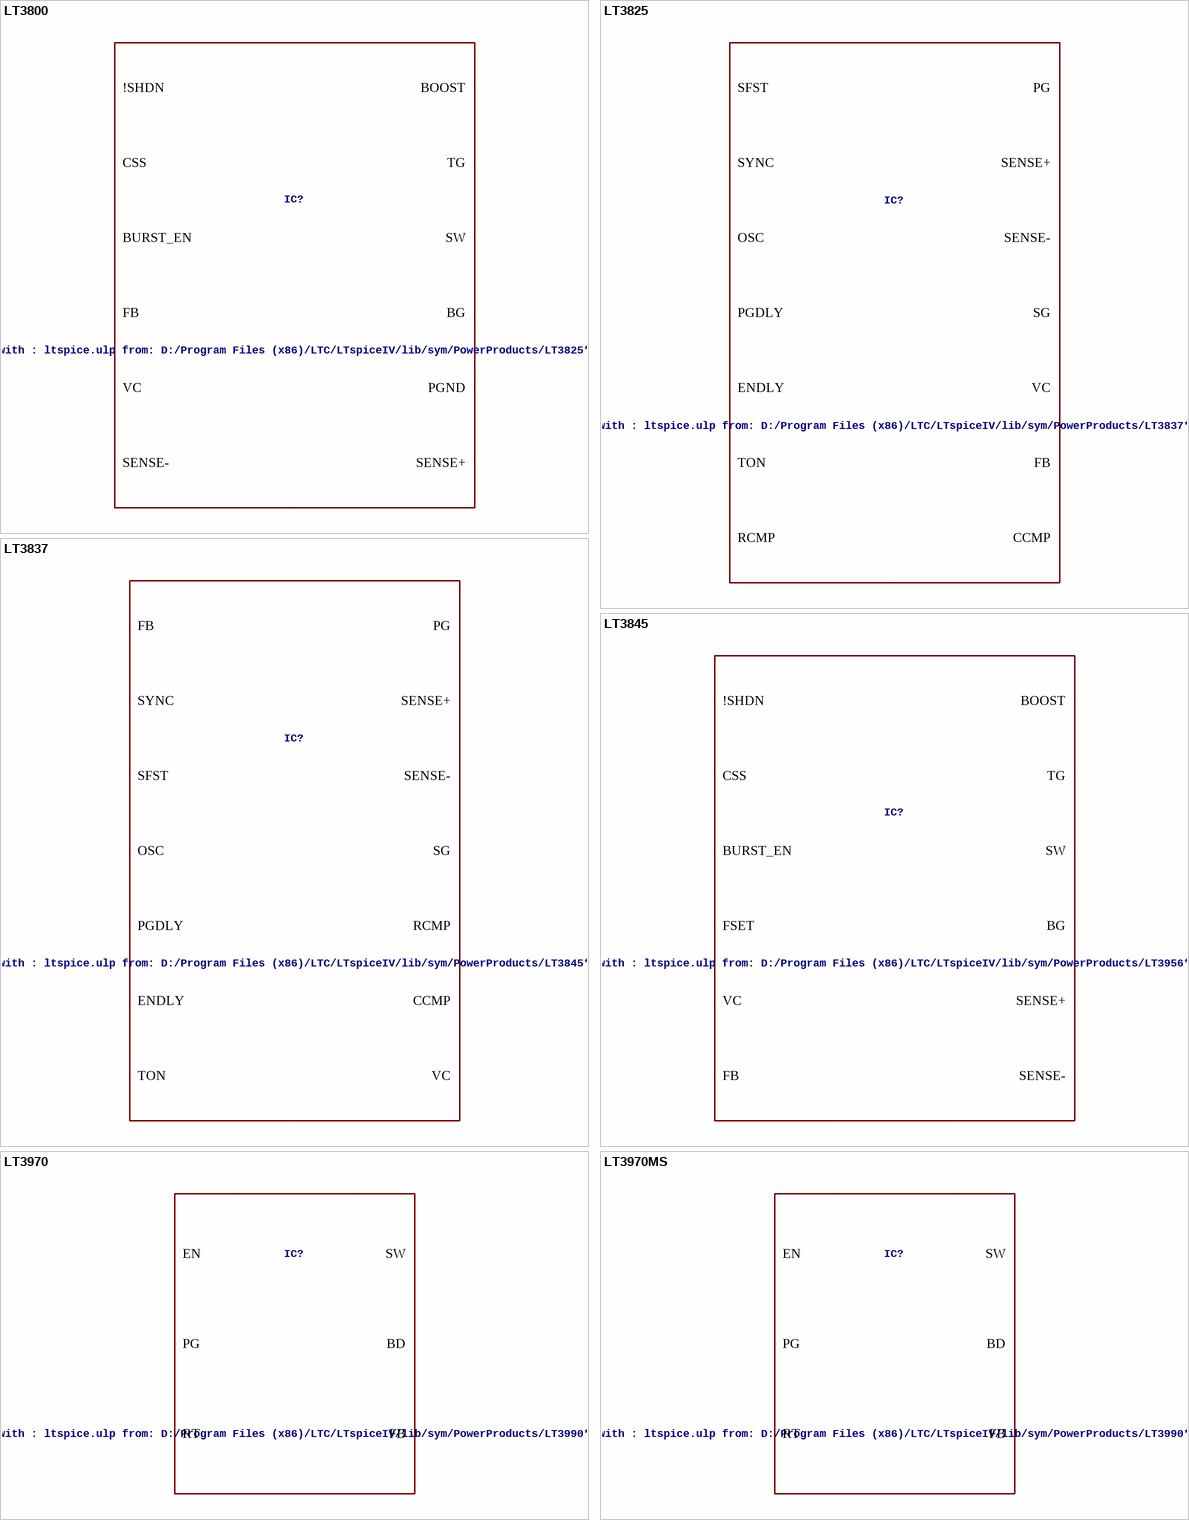
[diagram p30: symbols LT3800 to LT3970MS]

## LT3800
designator IC?, comment LT-Spice library generated with : ltspice.ulp from: D:/Program Files (x86)/LTC/LTspiceIV/lib/sym/PowerProducts/LT3825*.asy at 07.10.2012 16:44:23
VALUE2: LT3800; SPICEMODEL: LT3800.sub; SPICEPREFIX: X
footprint TSSOP16BC(FE)
pins: 1 VIN, 3 !SHDN, 4 CSS, 5 BURST_EN, 6 FB, 7 VC, 8 SENSE-, 9 SENSE+, 10 PGND, 11 BG, 12 VCC, 14 SW, 15 TG, 16 BOOST, 17 SGND

## LT3825
designator IC?, comment LT-Spice library generated with : ltspice.ulp from: D:/Program Files (x86)/LTC/LTspiceIV/lib/sym/PowerProducts/LT3837*.asy at 07.10.2012 16:44:33
VALUE2: LT3825; SPICEMODEL: LT3825.sub; SPICEPREFIX: X
footprint TSSOP16BC(FE)
pins: 1 SG, 2 VCC, 3 TON, 4 ENDLY, 5 SYNC, 6 SFST, 7 OSC, 8 FB, 9 VC, 10 UVLO, 11 SENSE-, 12 SENSE+, 13 CCMP, 14 RCMP, 15 PGDLY, 16 PG, 17 GND

## LT3837
designator IC?, comment LT-Spice library generated with : ltspice.ulp from: D:/Program Files (x86)/LTC/LTspiceIV/lib/sym/PowerProducts/LT3845*.asy at 07.10.2012 16:44:42
VALUE2: LT3837; SPICEMODEL: LT3837.sub; SPICEPREFIX: X
footprint TSSOP16BC(FE)
pins: 1 SG, 2 VCC, 3 TON, 4 ENDLY, 5 SYNC, 6 SFST, 7 OSC, 8 FB, 9 VC, 10 UVLO, 11 SENSE-, 12 SENSE+, 13 CCMP, 14 RCMP, 15 PGDLY, 16 PG, 17 GND

## LT3845
designator IC?, comment LT-Spice library generated with : ltspice.ulp from: D:/Program Files (x86)/LTC/LTspiceIV/lib/sym/PowerProducts/LT3956*.asy at 07.10.2012 16:45:42
VALUE2: LT3845; SPICEMODEL: LT3845.sub; SPICEPREFIX: X
footprint PDIP16(N)
pins: 1 FB, 2 VC, 3 FSET, 4 SGND, 5 SENSE-, 6 SENSE+, 7 PGND, 8 BG, 9 VCC, 10 SW, 11 TG, 12 BOOST, 13 VIN, 14 !SHDN, 15 CSS, 16 BURST_EN

## LT3970
designator IC?, comment LT-Spice library generated with : ltspice.ulp from: D:/Program Files (x86)/LTC/LTspiceIV/lib/sym/PowerProducts/LT3990*.asy at 07.10.2012 16:47:13
VALUE2: LT3970; SPICEMODEL: LT3970.sub; SPICEPREFIX: X
footprint DFN10(DDB)
pins: 1 FB, 2 EN, 3 VIN, 4 5 11 GND, 6 SW, 7 BOOST, 8 BD, 9 PG, 10 RT

## LT3970MS
designator IC?, comment LT-Spice library generated with : ltspice.ulp from: D:/Program Files (x86)/LTC/LTspiceIV/lib/sym/PowerProducts/LT3990*.asy at 07.10.2012 16:47:13
VALUE2: LT3970; SPICEMODEL: LT3970.sub; SPICEPREFIX: X
footprint MSOP10(MS)
pins: 1 FB, 2 EN, 3 VIN, 4 5 GND, 6 SW, 7 BOOST, 8 BD, 9 PG, 10 RT

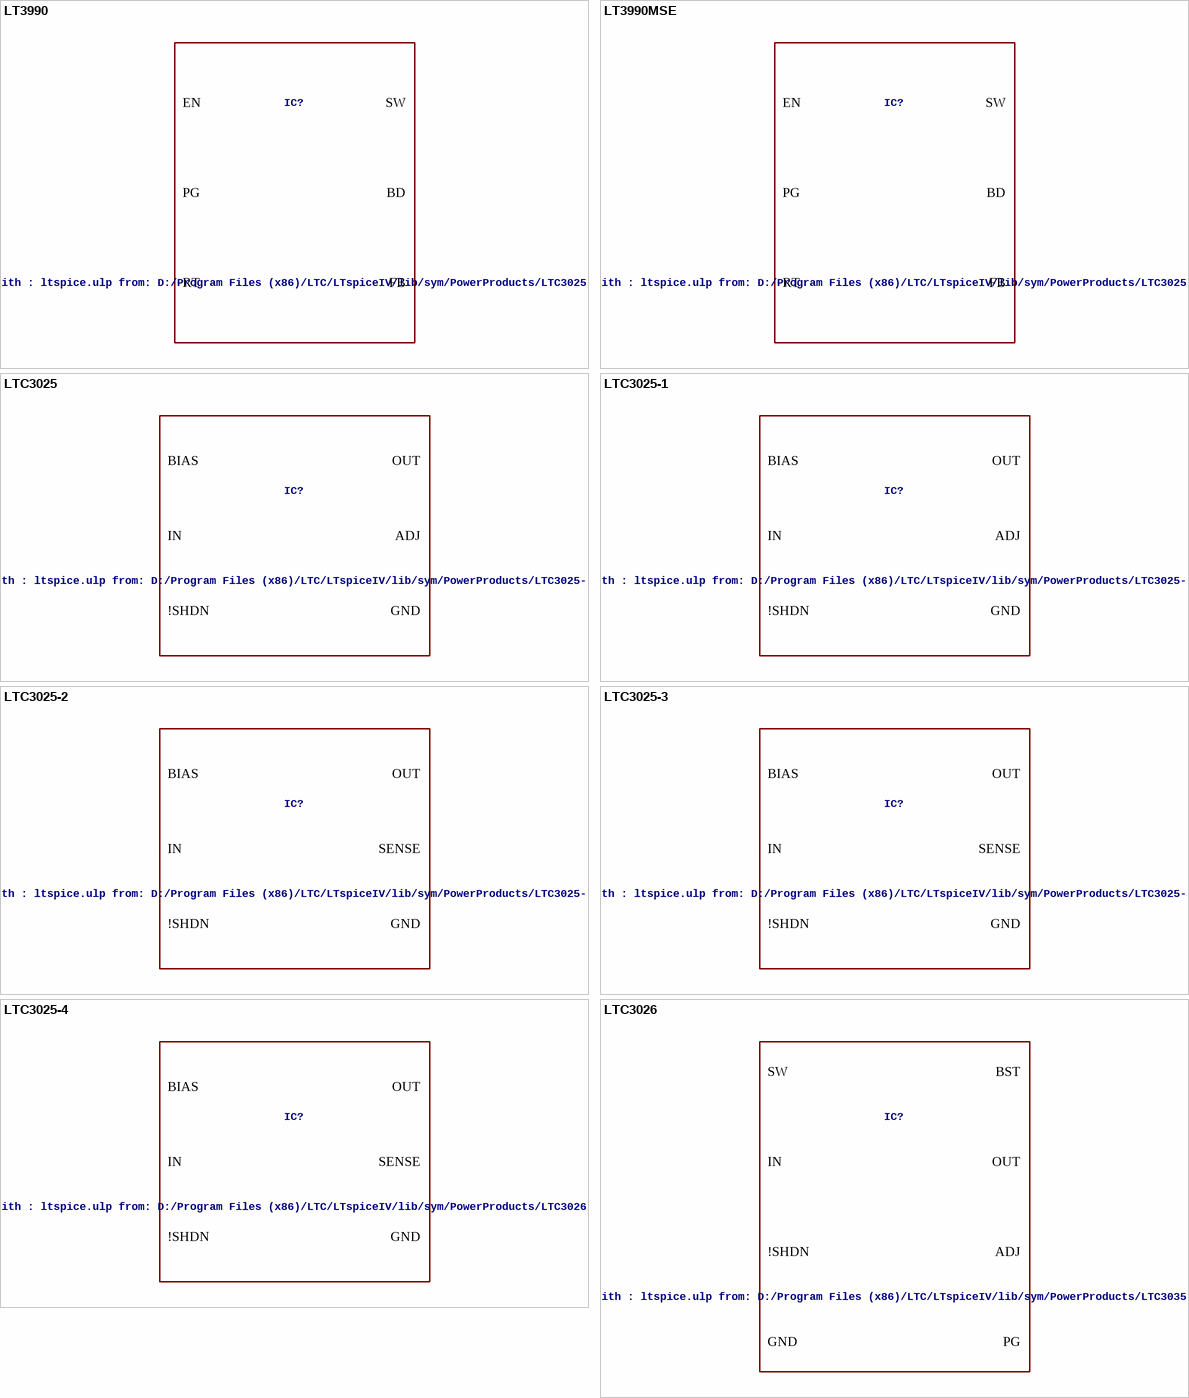
[diagram p31: symbols LT3990 to LTC3026]

## LT3990
designator IC?, comment LT-Spice library generated with : ltspice.ulp from: D:/Program Files (x86)/LTC/LTspiceIV/lib/sym/PowerProducts/LTC3025*.asy at 07.10.2012 17:08:03
VALUE2: LT3990; SPICEMODEL: LT3990.sub; SPICEPREFIX: X
footprint DFN10(DD)
pins: 1 FB, 2 EN, 3 VIN, 4 5 11 GND, 6 SW, 7 BOOST, 8 BD, 9 PG, 10 RT

## LT3990MSE
designator IC?, comment LT-Spice library generated with : ltspice.ulp from: D:/Program Files (x86)/LTC/LTspiceIV/lib/sym/PowerProducts/LTC3025*.asy at 07.10.2012 17:08:03
VALUE2: LT3990; SPICEMODEL: LT3990.sub; SPICEPREFIX: X
footprint MSOP16(MSE)
pins: 1 2 FB, 4 EN, 6 VIN, 8 17 GND, 9 SW, 11 BOOST, 13 BD, 14 PG, 16 RT

## LTC3025
designator IC?, comment LT-Spice library generated with : ltspice.ulp from: D:/Program Files (x86)/LTC/LTspiceIV/lib/sym/PowerProducts/LTC3025-1*.asy at 07.10.2012 17:10:40
SPICEMODEL: LTC3025.lib; SPICEPREFIX: X; VALUE2: LTC3025
footprint DFN6(DC)
pins: 1 BIAS, 2 7 GND, 3 IN, 4 OUT, 5 ADJ, 6 !SHDN

## LTC3025-1
designator IC?, comment LT-Spice library generated with : ltspice.ulp from: D:/Program Files (x86)/LTC/LTspiceIV/lib/sym/PowerProducts/LTC3025-2*.asy at 07.10.2012 17:10:49
VALUE2: LTC3025-1; SPICEMODEL: LTC3025.lib; SPICEPREFIX: X
footprint DFN6(DC)
pins: 1 BIAS, 2 7 GND, 3 IN, 4 OUT, 5 ADJ, 6 !SHDN

## LTC3025-2
designator IC?, comment LT-Spice library generated with : ltspice.ulp from: D:/Program Files (x86)/LTC/LTspiceIV/lib/sym/PowerProducts/LTC3025-3*.asy at 07.10.2012 17:10:55
VALUE2: LTC3025-2; SPICEMODEL: LTC3025.lib; SPICEPREFIX: X
footprint DFN6(DC)
pins: 1 BIAS, 2 7 GND, 3 IN, 4 OUT, 5 SENSE, 6 !SHDN

## LTC3025-3
designator IC?, comment LT-Spice library generated with : ltspice.ulp from: D:/Program Files (x86)/LTC/LTspiceIV/lib/sym/PowerProducts/LTC3025-4*.asy at 07.10.2012 17:11:02
VALUE2: LTC3025-3; SPICEMODEL: LTC3025.lib; SPICEPREFIX: X
footprint DFN6(DC)
pins: 1 BIAS, 2 7 GND, 3 IN, 4 OUT, 5 SENSE, 6 !SHDN

## LTC3025-4
designator IC?, comment LT-Spice library generated with : ltspice.ulp from: D:/Program Files (x86)/LTC/LTspiceIV/lib/sym/PowerProducts/LTC3026*.asy at 07.10.2012 17:11:14
VALUE2: LTC3025-4; SPICEMODEL: LTC3025.lib; SPICEPREFIX: X
footprint DFN6(DC)
pins: 1 BIAS, 2 7 GND, 3 IN, 4 OUT, 5 SENSE, 6 !SHDN

## LTC3026
designator IC?, comment LT-Spice library generated with : ltspice.ulp from: D:/Program Files (x86)/LTC/LTspiceIV/lib/sym/PowerProducts/LTC3035*.asy at 07.10.2012 17:14:16
VALUE2: LTC3026; SPICEMODEL: LTC3026.lib; SPICEPREFIX: X
footprint DFN10(DD)
pins: 1 2 IN, 3 11 GND, 4 SW, 5 BST, 6 !SHDN, 7 PG, 8 ADJ, 9 10 OUT

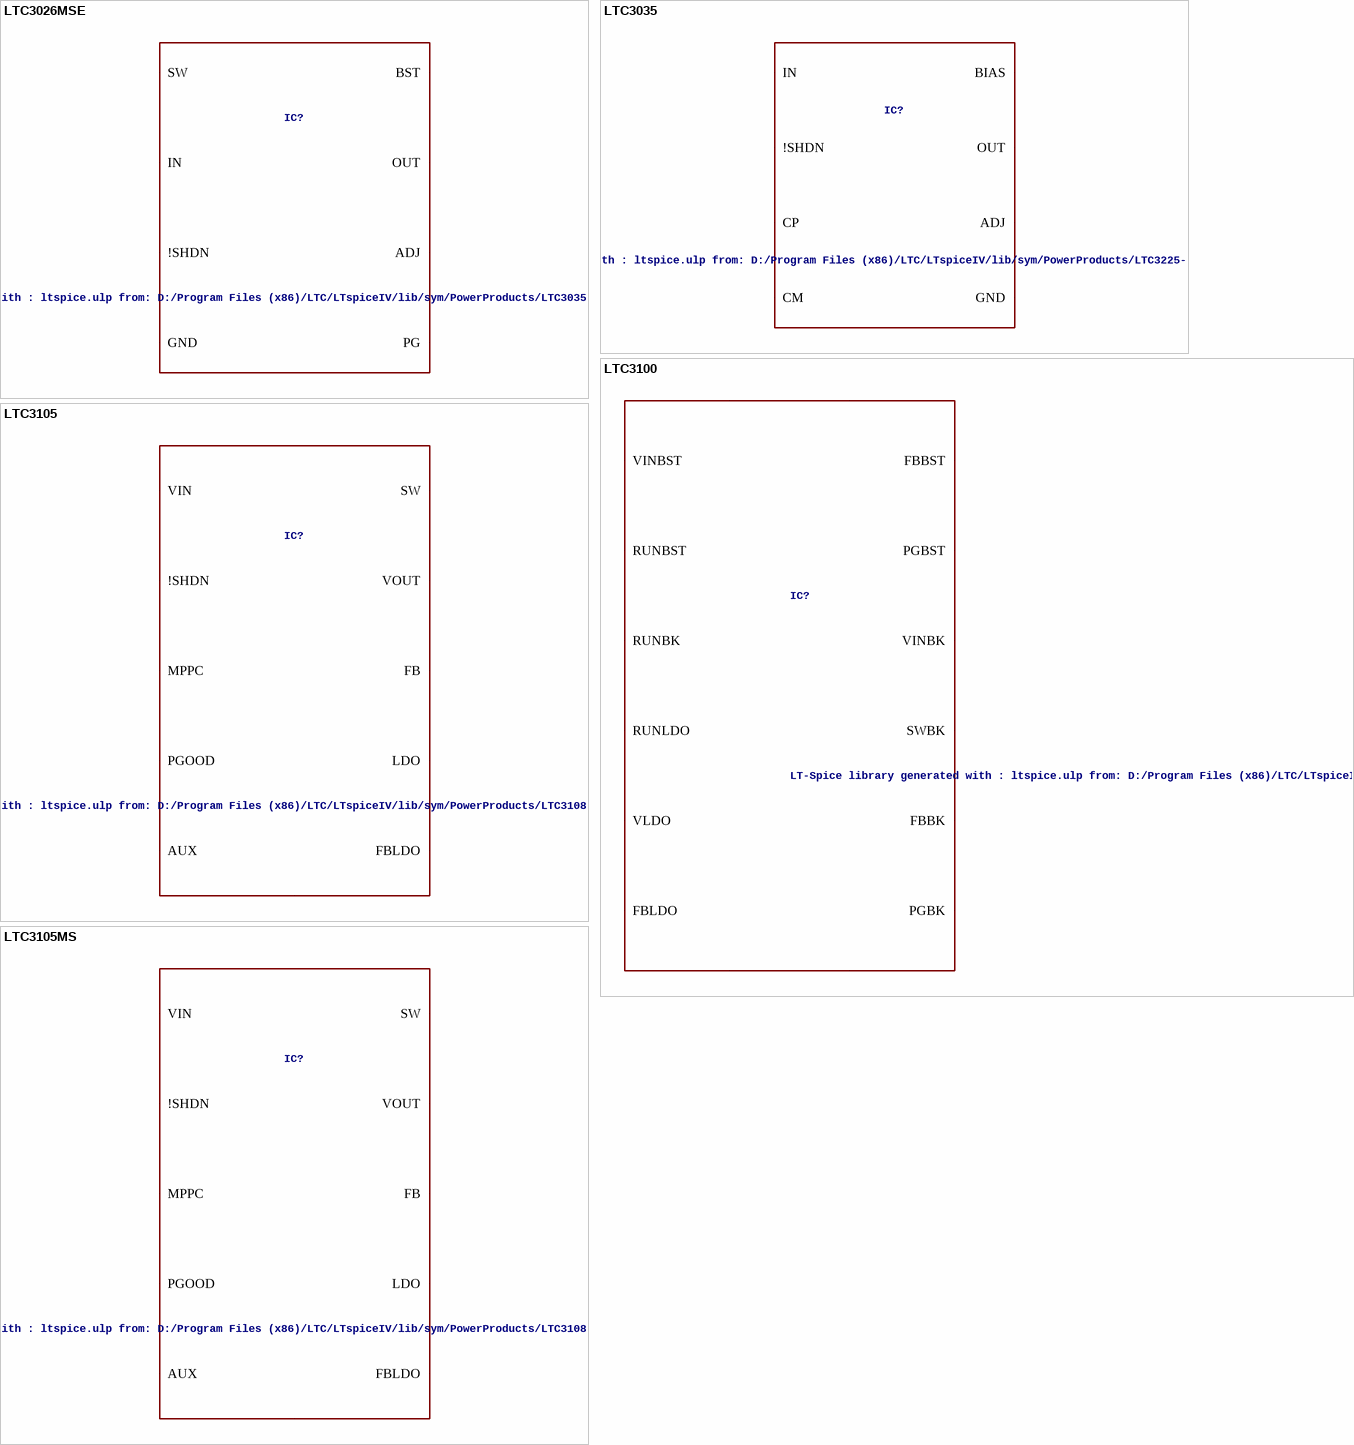
[diagram p32: symbols LTC3026MSE to LTC3105MS]

## LTC3026MSE
designator IC?, comment LT-Spice library generated with : ltspice.ulp from: D:/Program Files (x86)/LTC/LTspiceIV/lib/sym/PowerProducts/LTC3035*.asy at 07.10.2012 17:14:16
VALUE2: LTC3026; SPICEMODEL: LTC3026.lib; SPICEPREFIX: X
footprint MSOP10(MSE)
pins: 1 2 IN, 3 11 GND, 4 SW, 5 BST, 6 !SHDN, 7 PG, 8 ADJ, 9 10 OUT

## LTC3035
designator IC?, comment LT-Spice library generated with : ltspice.ulp from: D:/Program Files (x86)/LTC/LTspiceIV/lib/sym/PowerProducts/LTC3225-1*.asy at 07.10.2012 17:57:05
VALUE2: LTC3035; SPICEMODEL: LTC3035.sub; SPICEPREFIX: X
footprint DFN8(DDB)
pins: 1 CP, 2 CM, 3 9 GND, 4 IN, 5 OUT, 6 ADJ, 7 !SHDN, 8 BIAS

## LTC3100
designator IC?, comment LT-Spice library generated with : ltspice.ulp from: D:/Program Files (x86)/LTC/LTspiceIV/lib/sym/PowerProducts/LTC3105*.asy at 07.10.2012 17:14:49
VALUE2: LTC3100; SPICEMODEL: LTC3100.sub; SPICEPREFIX: X
footprint QFN16(UD)
pins: 1 SWBST, 2 VBST, 3 VLDO, 4 SWBK, 5 VINBK, 6 PGBK, 7 17 GND, 8 RUNBK, 9 FBBK, 10 RUNLDO, 11 FBLDO, 12 FBBST, 13 MODE, 14 RUNBST, 15 PGBST, 16 VINBST

## LTC3105
designator IC?, comment LT-Spice library generated with : ltspice.ulp from: D:/Program Files (x86)/LTC/LTspiceIV/lib/sym/PowerProducts/LTC3108*.asy at 07.10.2012 17:14:56
VALUE2: LTC3105; SPICEMODEL: LTC3105.sub; SPICEPREFIX: X
footprint DFN10(DD)
pins: 1 FB, 2 LDO, 3 FBLDO, 4 !SHDN, 5 MPPC, 6 VIN, 7 SW, 8 PGOOD, 9 VOUT, 10 AUX, 11 GND

## LTC3105MS
designator IC?, comment LT-Spice library generated with : ltspice.ulp from: D:/Program Files (x86)/LTC/LTspiceIV/lib/sym/PowerProducts/LTC3108*.asy at 07.10.2012 17:14:56
VALUE2: LTC3105; SPICEMODEL: LTC3105.sub; SPICEPREFIX: X
footprint MSOP12(MS)
pins: 1 FB, 2 LDO, 3 FBLDO, 4 !SHDN, 5 MPPC, 6 7 GND, 8 VIN, 9 SW, 10 PGOOD, 11 VOUT, 12 AUX

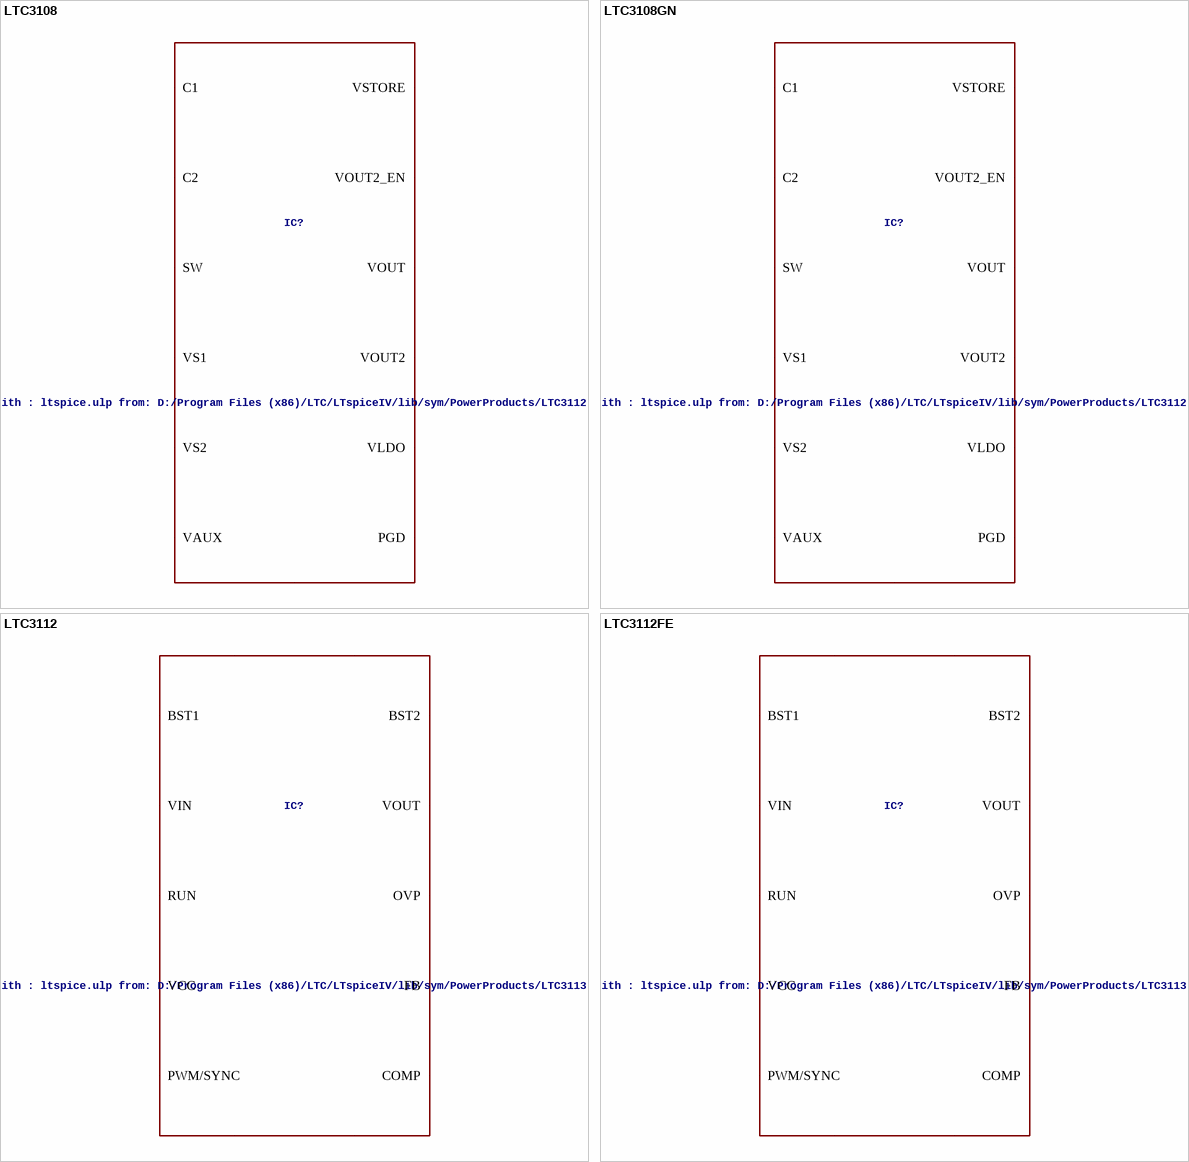
[diagram p33: symbols LTC3108 to LTC3112FE]

## LTC3108
designator IC?, comment LT-Spice library generated with : ltspice.ulp from: D:/Program Files (x86)/LTC/LTspiceIV/lib/sym/PowerProducts/LTC3112*.asy at 07.10.2012 17:15:06
VALUE2: LTC3108; SPICEMODEL: LTC3108.sub; SPICEPREFIX: X
footprint DFN12(DE)
pins: 1 VAUX, 2 VSTORE, 3 VOUT, 4 VOUT2, 5 VLDO, 6 PGD, 7 VS2, 8 VS1, 9 VOUT2_EN, 10 C1, 11 C2, 12 SW, 13 GND

## LTC3108GN
designator IC?, comment LT-Spice library generated with : ltspice.ulp from: D:/Program Files (x86)/LTC/LTspiceIV/lib/sym/PowerProducts/LTC3112*.asy at 07.10.2012 17:15:06
VALUE2: LTC3108; SPICEMODEL: LTC3108.sub; SPICEPREFIX: X
footprint SSOP16(GN)
pins: 1 8 9 16 GND, 2 VAUX, 3 VSTORE, 4 VOUT, 5 VOUT2, 6 VLDO, 7 PGD, 10 VS2, 11 VS1, 12 VOUT2_EN, 13 C1, 14 C2, 15 SW

## LTC3112
designator IC?, comment LT-Spice library generated with : ltspice.ulp from: D:/Program Files (x86)/LTC/LTspiceIV/lib/sym/PowerProducts/LTC3113*.asy at 07.10.2012 17:16:26
VALUE2: LTC3112; SPICEMODEL: LTC3112.sub; SPICEPREFIX: X
footprint DFN16(DHD)
pins: 1 COMP, 2 FB, 3 OVP, 4 5 VIN, 6 RUN, 7 IOUT, 8 VOUT, 9 10 SW2, 11 BST2, 12 13 SW1, 14 BST1, 15 VCC, 16 PWM/SYNC, 17 GND

## LTC3112FE
designator IC?, comment LT-Spice library generated with : ltspice.ulp from: D:/Program Files (x86)/LTC/LTspiceIV/lib/sym/PowerProducts/LTC3113*.asy at 07.10.2012 17:16:26
VALUE2: LTC3112; SPICEMODEL: LTC3112.sub; SPICEPREFIX: X
footprint TSSOP20CA(FE)
pins: 1 10 11 20 21 GND, 2 COMP, 3 FB, 4 OVP, 5 6 VIN, 7 RUN, 8 IOUT, 9 VOUT, 12 13 SW2, 14 BST2, 15 16 SW1, 17 BST1, 18 VCC, 19 PWM/SYNC

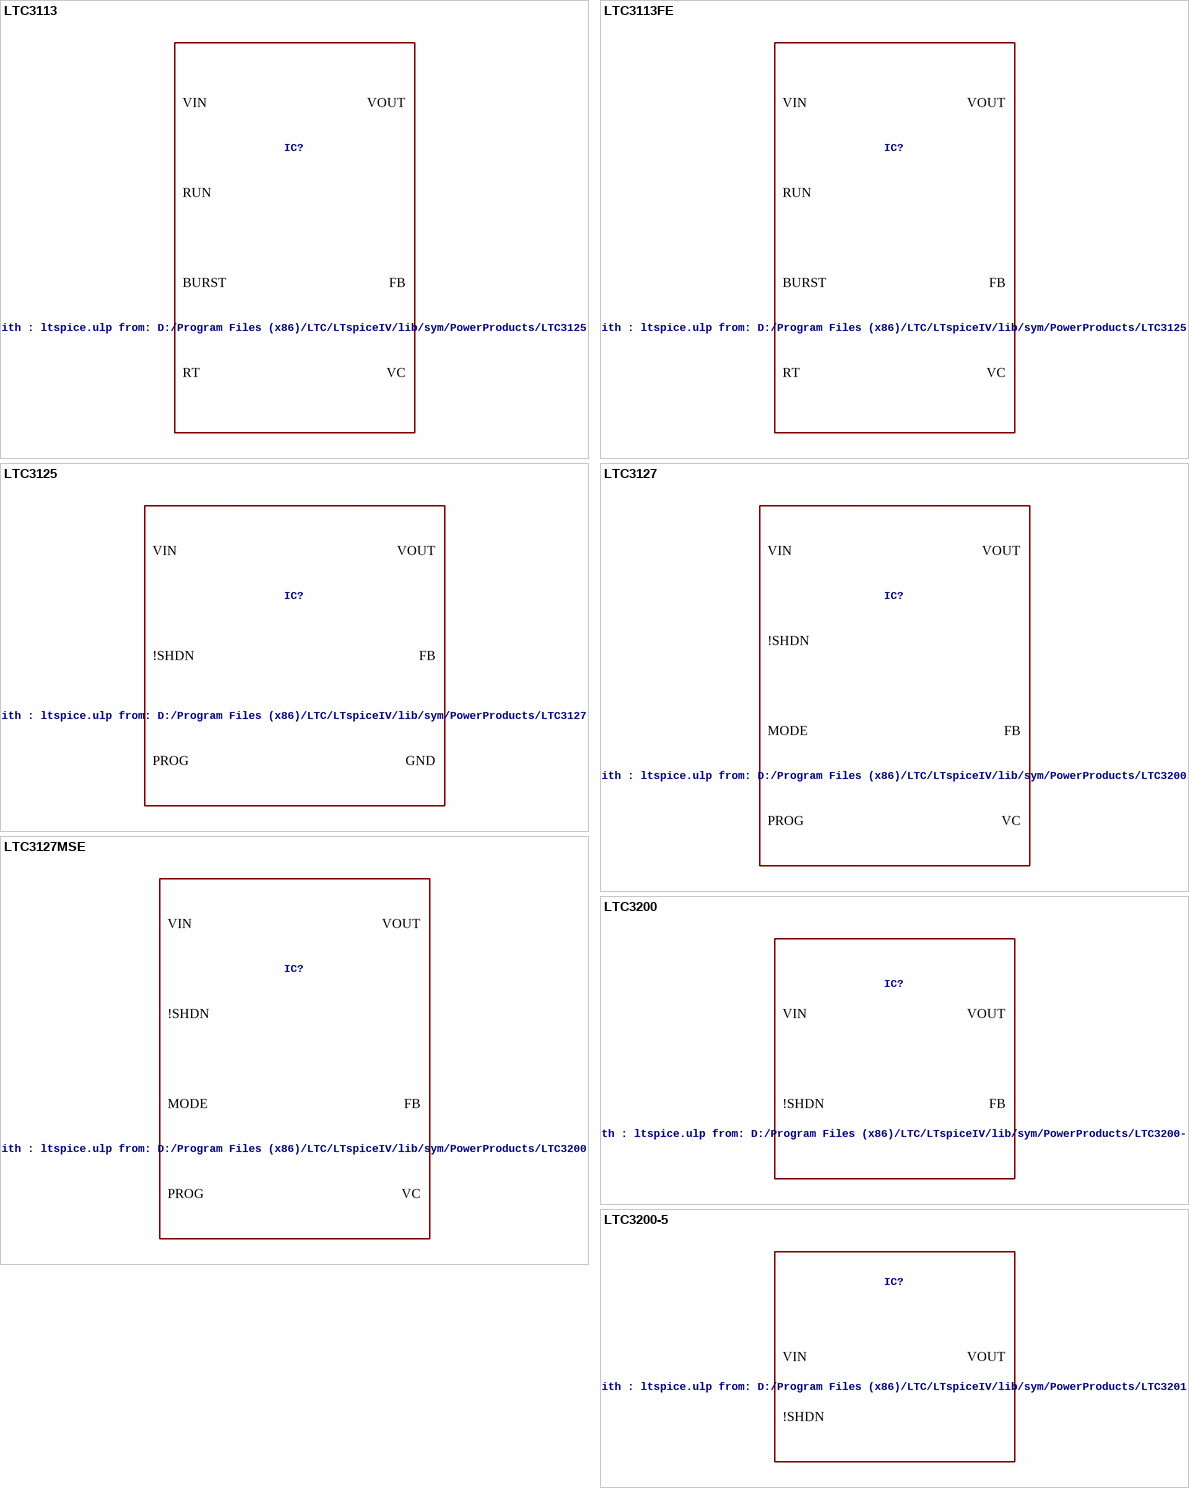
[diagram p34: symbols LTC3113 to LTC3200-5]

## LTC3113
designator IC?, comment LT-Spice library generated with : ltspice.ulp from: D:/Program Files (x86)/LTC/LTspiceIV/lib/sym/PowerProducts/LTC3125*.asy at 07.10.2012 17:16:38
VALUE2: LTC3113; SPICEMODEL: LTC3113.sub; SPICEPREFIX: X
footprint DFN16(DHD)
pins: 1 2 VOUT, 3 4 5 VIN, 6 SGND, 7 BURST, 8 RT, 9 VC, 10 FB, 11 RUN, 12 13 14 SW1, 15 16 SW2, 17 PGND

## LTC3113FE
designator IC?, comment LT-Spice library generated with : ltspice.ulp from: D:/Program Files (x86)/LTC/LTspiceIV/lib/sym/PowerProducts/LTC3125*.asy at 07.10.2012 17:16:38
VALUE2: LTC3113; SPICEMODEL: LTC3113.sub; SPICEPREFIX: X
footprint TSSOP20CA(FE)
pins: 1 10 11 20 21 PGND, 2 3 VOUT, 4 5 6 VIN, 7 SGND, 8 BURST, 9 RT, 12 VC, 13 FB, 14 RUN, 15 16 17 SW1, 18 19 SW2

## LTC3125
designator IC?, comment LT-Spice library generated with : ltspice.ulp from: D:/Program Files (x86)/LTC/LTspiceIV/lib/sym/PowerProducts/LTC3127*.asy at 07.10.2012 17:16:54
VALUE2: LTC3125; SPICEMODEL: LTC3125.sub; SPICEPREFIX: X
footprint DFN8(DCB)
pins: 1 9 GND, 2 FB, 3 PROG, 4 VIN, 5 CS, 6 !SHDN, 7 VOUT, 8 SW

## LTC3127
designator IC?, comment LT-Spice library generated with : ltspice.ulp from: D:/Program Files (x86)/LTC/LTspiceIV/lib/sym/PowerProducts/LTC3200*.asy at 07.10.2012 17:17:07
VALUE2: LTC3127; SPICEMODEL: LTC3127.sub; SPICEPREFIX: X
footprint DFN10(DD)
pins: 1 SW1, 2 VIN, 3 !SHDN, 4 MODE, 5 PROG, 6 SGND, 7 FB, 8 VC, 9 VOUT, 10 SW2, 11 PGND

## LTC3127MSE
designator IC?, comment LT-Spice library generated with : ltspice.ulp from: D:/Program Files (x86)/LTC/LTspiceIV/lib/sym/PowerProducts/LTC3200*.asy at 07.10.2012 17:17:07
VALUE2: LTC3127; SPICEMODEL: LTC3127.sub; SPICEPREFIX: X
footprint MSOP12(MSE)
pins: 1 12 13 PGND, 2 SW1, 3 VIN, 4 !SHDN, 5 MODE, 6 PROG, 7 SGND, 8 FB, 9 VC, 10 VOUT, 11 SW2

## LTC3200
designator IC?, comment LT-Spice library generated with : ltspice.ulp from: D:/Program Files (x86)/LTC/LTspiceIV/lib/sym/PowerProducts/LTC3200-5*.asy at 07.10.2012 17:17:22
SPICEMODEL: LTC3200.sub; SPICEPREFIX: X; VALUE2: LTC3200
footprint MSOP8(MS8)
pins: 1 CAP+, 2 VIN, 3 CAP-, 4 PGND, 5 GND, 6 !SHDN, 7 FB, 8 VOUT

## LTC3200-5
designator IC?, comment LT-Spice library generated with : ltspice.ulp from: D:/Program Files (x86)/LTC/LTspiceIV/lib/sym/PowerProducts/LTC3201*.asy at 07.10.2012 17:17:28
VALUE2: LTC3200-5; SPICEMODEL: LTC3200-5.sub; SPICEPREFIX: X
footprint SOT6(S6)
pins: 1 VOUT, 2 GND, 3 !SHDN, 4 CAP-, 5 VIN, 6 CAP+

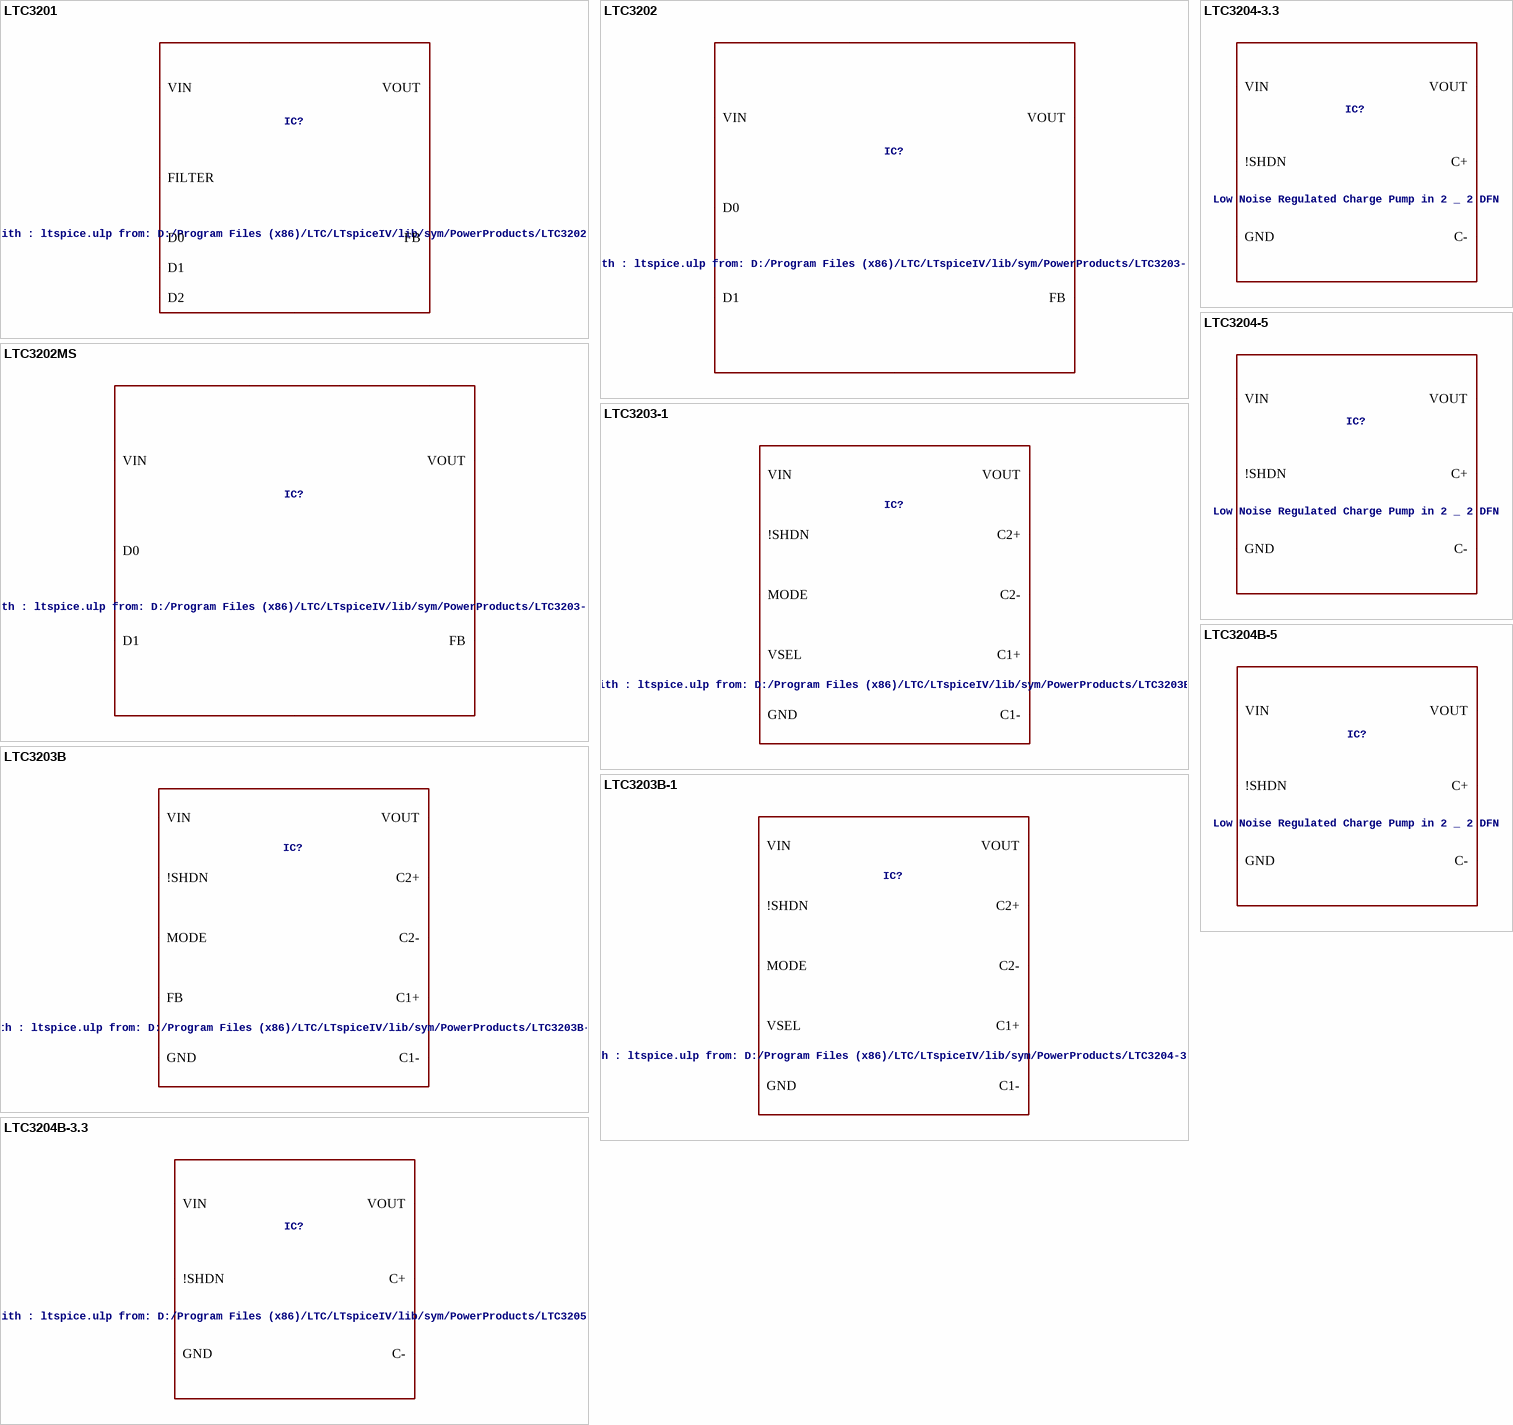
[diagram p35: symbols LTC3201 to LTC3204B-5]

## LTC3201
designator IC?, comment LT-Spice library generated with : ltspice.ulp from: D:/Program Files (x86)/LTC/LTspiceIV/lib/sym/PowerProducts/LTC3202*.asy at 07.10.2012 17:17:38
VALUE2: LTC3201; SPICEMODEL: LTC3201.sub; SPICEPREFIX: X
footprint MSOP10(MS)
pins: 1 VOUT, 2 CP, 3 FILTER, 4 CM, 5 GND, 6 D0, 7 D1, 8 D2, 9 VIN, 10 FB

## LTC3202
designator IC?, comment LT-Spice library generated with : ltspice.ulp from: D:/Program Files (x86)/LTC/LTspiceIV/lib/sym/PowerProducts/LTC3203-1*.asy at 07.10.2012 17:17:46
VALUE2: LTC3202; SPICEMODEL: LTC3202.sub; SPICEPREFIX: X
footprint DFN10(DD)
pins: 1 D1, 2 FB, 3 VOUT, 4 VIN, 5 11 GND, 6 C2-, 7 C1-, 8 C1+, 9 C2+, 10 D0

## LTC3202MS
designator IC?, comment LT-Spice library generated with : ltspice.ulp from: D:/Program Files (x86)/LTC/LTspiceIV/lib/sym/PowerProducts/LTC3203-1*.asy at 07.10.2012 17:17:46
VALUE2: LTC3202; SPICEMODEL: LTC3202.sub; SPICEPREFIX: X
footprint MSOP10(MS)
pins: 1 D1, 2 FB, 3 VOUT, 4 VIN, 5 GND, 6 C2-, 7 C1-, 8 C1+, 9 C2+, 10 D0

## LTC3203-1
designator IC?, comment LT-Spice library generated with : ltspice.ulp from: D:/Program Files (x86)/LTC/LTspiceIV/lib/sym/PowerProducts/LTC3203B*.asy at 07.10.2012 17:18:51
VALUE2: LTC3203-1; SPICEMODEL: LTC3203-1.sub; SPICEPREFIX: X
footprint DFN10(DD)
pins: 1 C2+, 2 VOUT, 3 C1+, 4 !SHDN, 5 VSEL, 6 MODE, 7 VIN, 8 C2-, 9 11 GND, 10 C1-

## LTC3203B
designator IC?, comment LT-Spice library generated with : ltspice.ulp from: D:/Program Files (x86)/LTC/LTspiceIV/lib/sym/PowerProducts/LTC3203B-1*.asy at 07.10.2012 17:19:00
SPICEMODEL: LTC3203B.sub; SPICEPREFIX: X; VALUE2: LTC3203B
footprint DFN10(DD)
pins: 1 C2+, 2 VOUT, 3 C1+, 4 !SHDN, 5 FB, 6 MODE, 7 VIN, 8 C2-, 9 11 GND, 10 C1-

## LTC3203B-1
designator IC?, comment LT-Spice library generated with : ltspice.ulp from: D:/Program Files (x86)/LTC/LTspiceIV/lib/sym/PowerProducts/LTC3204-3.3*.asy at 07.10.2012 17:19:22
VALUE2: LTC3203B-1; SPICEMODEL: LTC3203B-1.sub; SPICEPREFIX: X
footprint DFN10(DD)
pins: 1 C2+, 2 VOUT, 3 C1+, 4 !SHDN, 5 VSEL, 6 MODE, 7 VIN, 8 C2-, 9 11 GND, 10 C1-

## LTC3204-3.3
designator IC?, comment Low Noise Regulated Charge Pump in 2 _ 2 DFN
VALUE2: LTC3204-3.3; SPICEMODEL: LTC3204-3.3.sub; SPICEPREFIX: X
footprint DFN6(DC)
pins: 1 7 GND, 2 VIN, 3 VOUT, 4 C+, 5 C-, 6 !SHDN

## LTC3204-5
designator IC?, comment Low Noise Regulated Charge Pump in 2 _ 2 DFN
VALUE2: LTC3204-5; SPICEMODEL: LTC3204-5.sub; SPICEPREFIX: X
footprint DFN6(DC)
pins: 1 7 GND, 2 VIN, 3 VOUT, 4 C+, 5 C-, 6 !SHDN

## LTC3204B-3.3
designator IC?, comment LT-Spice library generated with : ltspice.ulp from: D:/Program Files (x86)/LTC/LTspiceIV/lib/sym/PowerProducts/LTC3205*.asy at 07.10.2012 17:20:01
VALUE2: LTC3204B-3.3; SPICEMODEL: LTC3204B-3.3.sub; SPICEPREFIX: X
footprint DFN6(DC)
pins: 1 7 GND, 2 VIN, 3 VOUT, 4 C+, 5 C-, 6 !SHDN

## LTC3204B-5
designator IC?, comment Low Noise Regulated Charge Pump in 2 _ 2 DFN
VALUE2: LTC3204B-5; SPICEMODEL: LTC3204B-5.sub; SPICEPREFIX: X
footprint DFN6(DC)
pins: 1 7 GND, 2 VIN, 3 VOUT, 4 C+, 5 C-, 6 !SHDN

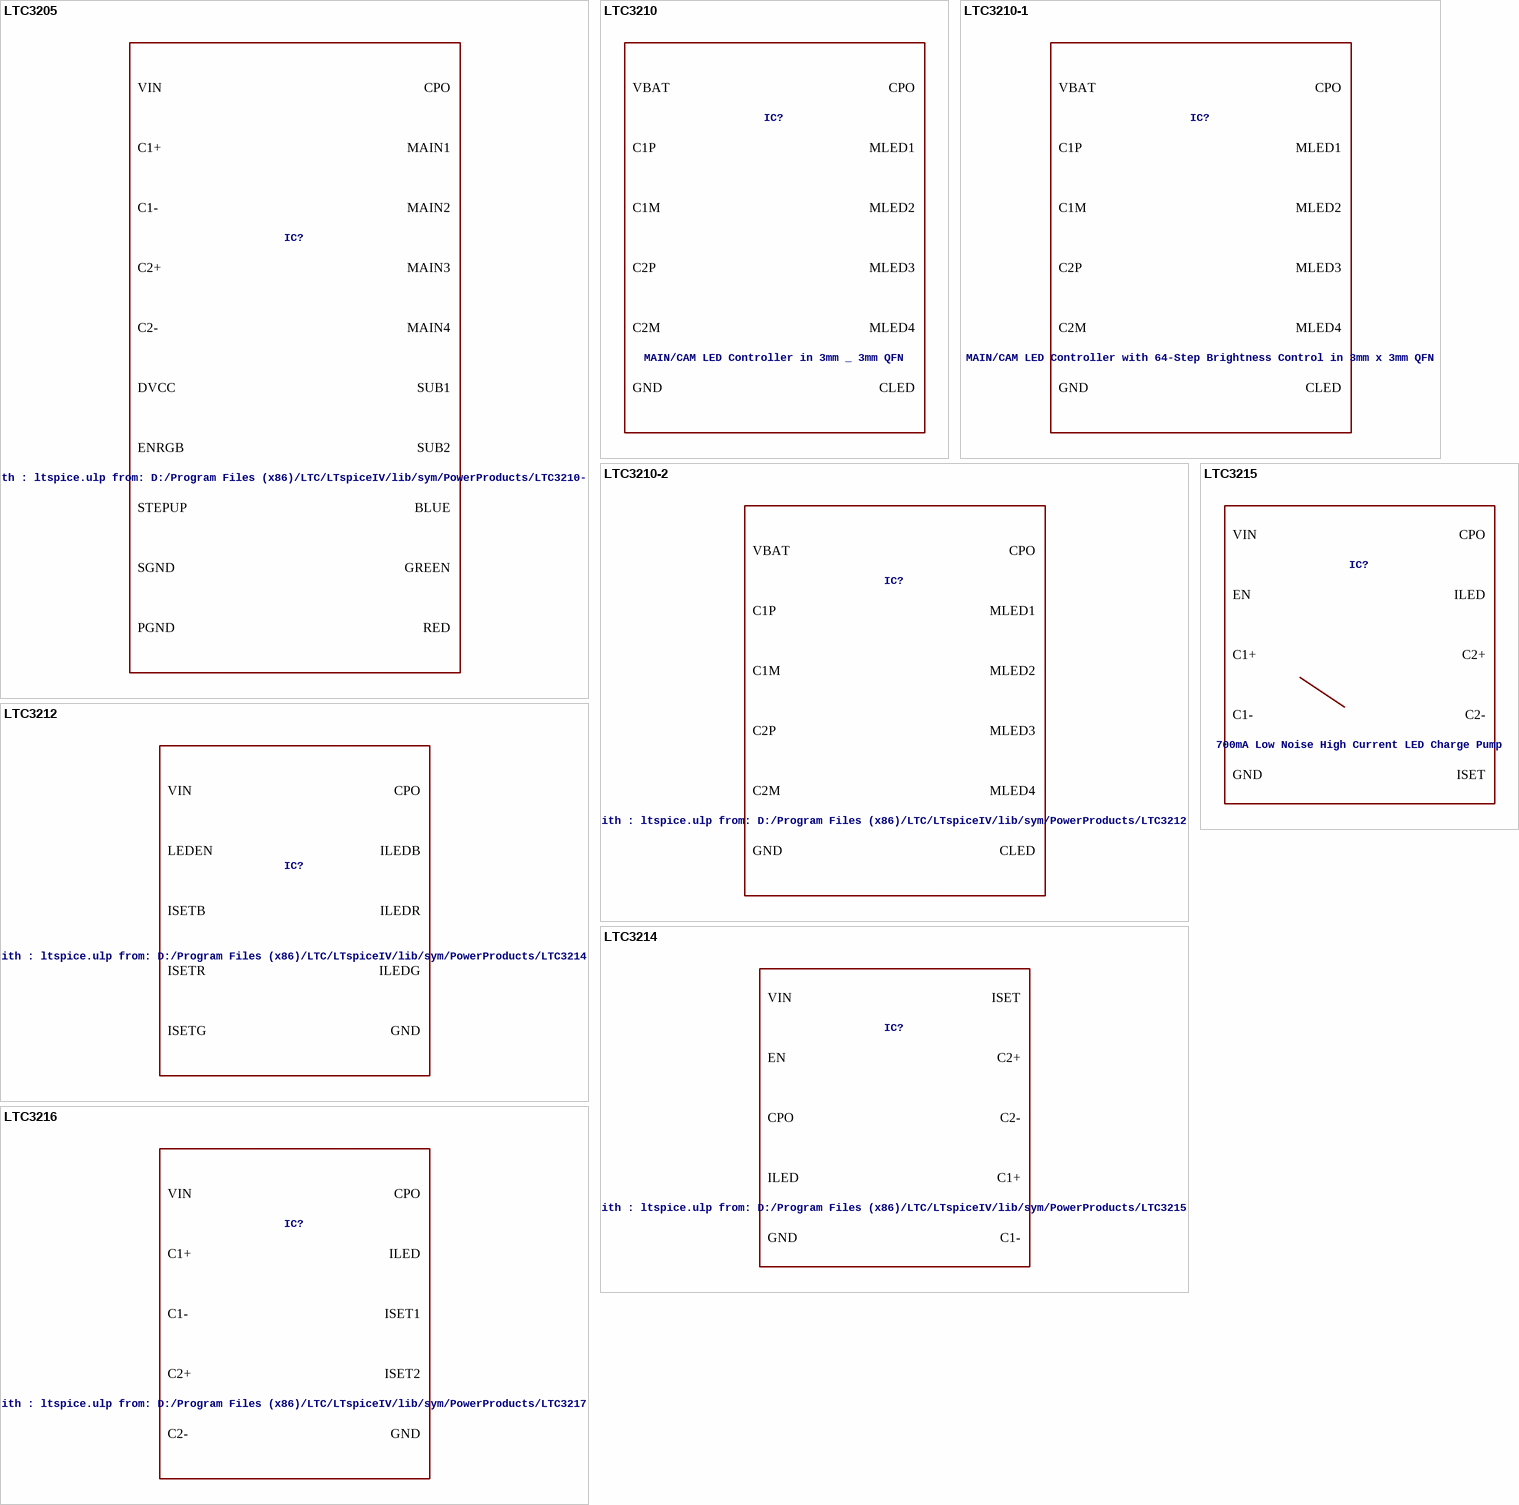
[diagram p36: symbols LTC3205 to LTC3216]

## LTC3205
designator IC?, comment LT-Spice library generated with : ltspice.ulp from: D:/Program Files (x86)/LTC/LTspiceIV/lib/sym/PowerProducts/LTC3210-1*.asy at 07.10.2012 17:20:15
VALUE2: LTC3205; SPICEMODEL: LTC3205.sub; SPICEPREFIX: X
footprint QFN24(UF)
pins: 1 MAIN2, 2 MAIN1, 3 C2-, 4 C1-, 5 C1+, 6 C2+, 7 DIN, 8 SCLK, 9 !LD, 10 ENRGB, 11 STEPUP, 12 DVCC, 13 IRGB, 14 IMS, 15 CPO, 16 VIN, 17 SGND, 18 RED, 19 GREEN, 20 BLUE, 21 SUB2, 22 SUB1, 23 MAIN4, 24 MAIN3, 25 PGND

## LTC3210
designator IC?, comment MAIN/CAM LED Controller in 3mm _ 3mm QFN
VALUE2: LTC3210; SPICEMODEL: LTC3210.sub; SPICEPREFIX: X
footprint QFN16(UD)
pins: 1 C1P, 2 CPO, 3 ENM, 4 MLED1, 5 MLED2, 6 MLED3, 7 MLED4, 8 RM, 9 RC, 10 ENC, 11 CLED, 12 17 GND, 13 C2M, 14 C1M, 15 VBAT, 16 C2P

## LTC3210-1
designator IC?, comment MAIN/CAM LED Controller with 64-Step Brightness Control in 3mm x 3mm QFN
VALUE2: LTC3210-1; SPICEMODEL: LTC3210-1.sub; SPICEPREFIX: X
footprint QFN16(UD)
pins: 1 C1P, 2 CPO, 3 ENM, 4 MLED1, 5 MLED2, 6 MLED3, 7 MLED4, 8 RM, 9 RC, 10 ENC, 11 CLED, 12 17 GND, 13 C2M, 14 C1M, 15 VBAT, 16 C2P

## LTC3210-2
designator IC?, comment LT-Spice library generated with : ltspice.ulp from: D:/Program Files (x86)/LTC/LTspiceIV/lib/sym/PowerProducts/LTC3212*.asy at 07.10.2012 17:52:12
VALUE2: LTC3210-2; SPICEMODEL: LTC3210-2.sub; SPICEPREFIX: X
footprint QFN16(UD)
pins: 1 C1P, 2 CPO, 3 ENM, 4 MLED1, 5 MLED2, 6 MLED3, 7 MLED4, 8 RM, 9 RC, 10 ENC, 11 CLED, 12 17 GND, 13 C2M, 14 C1M, 15 VBAT, 16 C2P

## LTC3212
designator IC?, comment LT-Spice library generated with : ltspice.ulp from: D:/Program Files (x86)/LTC/LTspiceIV/lib/sym/PowerProducts/LTC3214*.asy at 07.10.2012 17:52:18
VALUE2: LTC3212; SPICEMODEL: LTC3212.sub; SPICEPREFIX: X
footprint DFN12(DDB)
pins: 1 CP, 2 CPO, 3 LEDEN, 4 ISETB, 5 ISETR, 6 ISETG, 7 ILEDG, 8 ILEDR, 9 ILEDB, 10 13 GND, 11 CM, 12 VIN

## LTC3214
designator IC?, comment LT-Spice library generated with : ltspice.ulp from: D:/Program Files (x86)/LTC/LTspiceIV/lib/sym/PowerProducts/LTC3215*.asy at 07.10.2012 17:52:31
VALUE2: LTC3214; SPICEMODEL: LTC3214.sub; SPICEPREFIX: X
footprint DFN10(DD)
pins: 1 C2+, 2 C1+, 3 CPO, 4 ILED, 5 ISET, 6 EN, 7 VIN, 8 C2-, 9 11 GND, 10 C1-

## LTC3215
designator IC?, comment 700mA Low Noise High Current LED Charge Pump
VALUE2: LTC3215; SPICEMODEL: LTC3215.sub; SPICEPREFIX: X
footprint DFN10(DD)
pins: 1 C2+, 2 C1+, 3 CPO, 4 ILED, 5 ISET, 6 EN, 7 VIN, 8 C2-, 9 11 GND, 10 C1-

## LTC3216
designator IC?, comment LT-Spice library generated with : ltspice.ulp from: D:/Program Files (x86)/LTC/LTspiceIV/lib/sym/PowerProducts/LTC3217*.asy at 07.10.2012 17:52:43
VALUE2: LTC3216; SPICEMODEL: LTC3216.sub; SPICEPREFIX: X
footprint DFN12(DE)
pins: 1 C2+, 2 C1+, 3 CPO, 4 ISET1, 5 ILED, 6 ISET2, 7 EN1, 8 EN2, 9 VIN, 10 C2-, 11 13 GND, 12 C1-

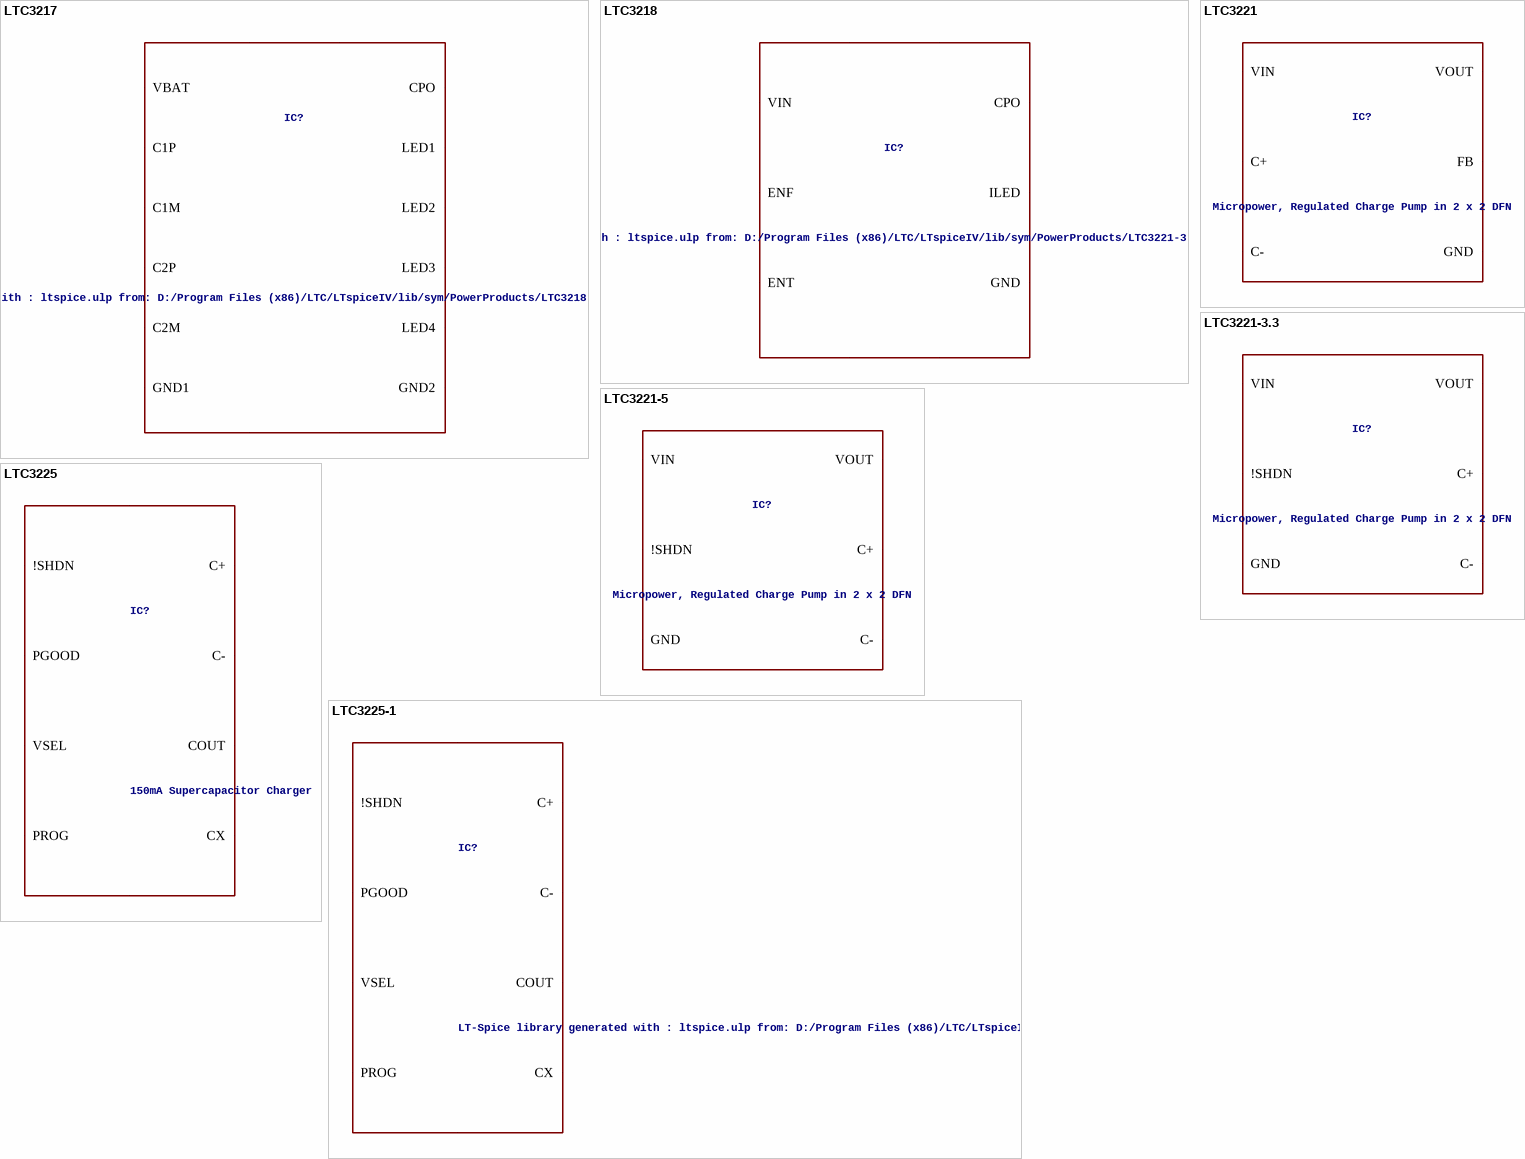
[diagram p37: symbols LTC3217 to LTC3225-1]

## LTC3217
designator IC?, comment LT-Spice library generated with : ltspice.ulp from: D:/Program Files (x86)/LTC/LTspiceIV/lib/sym/PowerProducts/LTC3218*.asy at 07.10.2012 17:52:50
VALUE2: LTC3217; SPICEMODEL: LTC3217.sub; SPICEPREFIX: X
footprint QFN16(UD)
pins: 1 C1P, 2 CPO, 3 EN1, 4 LED1, 5 LED2, 6 LED3, 7 LED4, 8 GND2, 9 ISET1, 10 ISET2, 11 EN2, 12 C2M, 13 17 GND1, 14 C1M, 15 VBAT, 16 C2P

## LTC3218
designator IC?, comment LT-Spice library generated with : ltspice.ulp from: D:/Program Files (x86)/LTC/LTspiceIV/lib/sym/PowerProducts/LTC3221-3.3*.asy at 07.10.2012 17:53:18
VALUE2: LTC3218; SPICEMODEL: LTC3218.sub; SPICEPREFIX: X
footprint DFN10(DDB)
pins: 1 CP, 2 CPO, 3 ILED, 4 ENT, 5 ISETT, 6 ISETF, 7 ENF, 8 11 GND, 9 CM, 10 VIN

## LTC3221
designator IC?, comment Micropower, Regulated Charge Pump in 2 x 2 DFN
VALUE2: LTC3221; SPICEMODEL: LTC3221.sub; SPICEPREFIX: X
footprint DFN6(DC)
pins: 1 C+, 2 C-, 3 FB, 4 7 GND, 5 VIN, 6 VOUT

## LTC3221-3.3
designator IC?, comment Micropower, Regulated Charge Pump in 2 x 2 DFN
VALUE2: LTC3221-3.3; SPICEMODEL: LTC3221-3.3.sub; SPICEPREFIX: X
footprint DFN6(DC)
pins: 1 C+, 2 C-, 3 !SHDN, 4 7 GND, 5 VIN, 6 VOUT

## LTC3221-5
designator IC?, comment Micropower, Regulated Charge Pump in 2 x 2 DFN
VALUE2: LTC3221-5; SPICEMODEL: LTC3221-5.sub; SPICEPREFIX: X
footprint DFN6(DC)
pins: 1 C+, 2 C-, 3 !SHDN, 4 7 GND, 5 VIN, 6 VOUT

## LTC3225
designator IC?, comment 150mA Supercapacitor Charger
VALUE2: LTC3225; SPICEMODEL: LTC3225.sub; SPICEPREFIX: X
footprint DFN10(DDB)
pins: 1 C+, 2 C-, 3 CX, 4 !SHDN, 5 PGOOD, 6 VSEL, 7 PROG, 8 11 GND, 9 VIN, 10 COUT

## LTC3225-1
designator IC?, comment LT-Spice library generated with : ltspice.ulp from: D:/Program Files (x86)/LTC/LTspiceIV/lib/sym/PowerProducts/LTC3230*.asy at 07.10.2012 17:57:48
VALUE2: LTC3225-1; SPICEMODEL: LTC3225-1.sub; SPICEPREFIX: X
footprint DFN10(DDB)
pins: 1 C+, 2 C-, 3 CX, 4 !SHDN, 5 PGOOD, 6 VSEL, 7 PROG, 8 11 GND, 9 VIN, 10 COUT

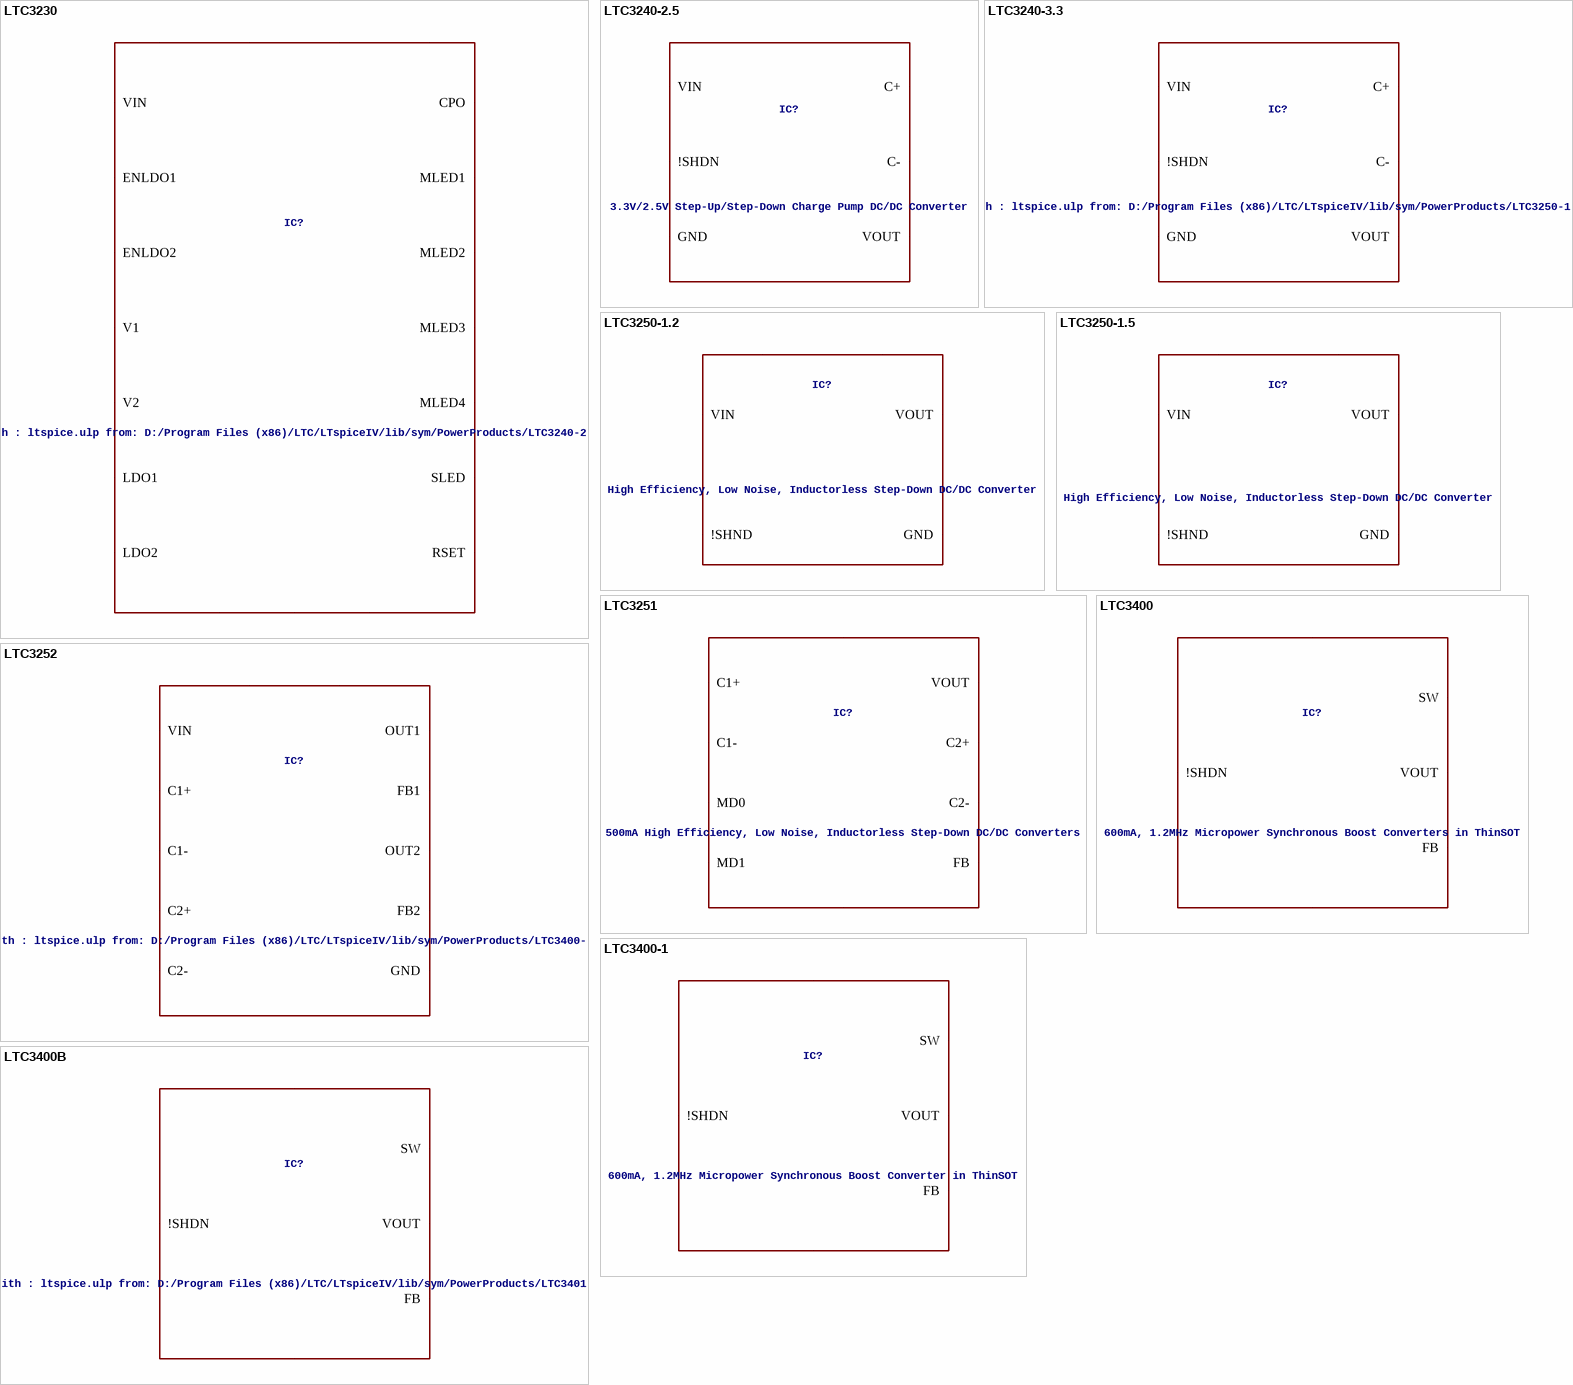
[diagram p38: symbols LTC3230 to LTC3400B]

## LTC3230
designator IC?, comment LT-Spice library generated with : ltspice.ulp from: D:/Program Files (x86)/LTC/LTspiceIV/lib/sym/PowerProducts/LTC3240-2.5*.asy at 07.10.2012 17:58:14
VALUE2: LTC3230; SPICEMODEL: LTC3230.sub; SPICEPREFIX: X
footprint QFN20(UD)
pins: 1 CPO, 2 ENLDO1, 3 ENLDO2, 4 RSET, 5 ENS, 6 SLED, 7 MLED1, 8 MLED2, 9 MLED3, 10 MLED4, 11 ENM, 12 V2, 13 V1, 14 LDO2, 15 LDO1, 16 C2M, 17 C1M, 18 VIN, 19 C2P, 20 C1P, 21 GND

## LTC3240-2.5
designator IC?, comment 3.3V/2.5V Step-Up/Step-Down Charge Pump DC/DC Converter
VALUE2: LTC3240-2.5; SPICEMODEL: LTC3240-2.5.sub; SPICEPREFIX: X
footprint DFN6(DC)
pins: 1 7 GND, 2 VIN, 3 VOUT, 4 C+, 5 C-, 6 !SHDN

## LTC3240-3.3
designator IC?, comment LT-Spice library generated with : ltspice.ulp from: D:/Program Files (x86)/LTC/LTspiceIV/lib/sym/PowerProducts/LTC3250-1.2*.asy at 07.10.2012 18:00:34
VALUE2: LTC3240-3.3; SPICEMODEL: LTC3240-3.3.sub; SPICEPREFIX: X
footprint DFN6(DC)
pins: 1 7 GND, 2 VIN, 3 VOUT, 4 C+, 5 C-, 6 !SHDN

## LTC3250-1.2
designator IC?, comment High Efficiency, Low Noise, Inductorless Step-Down DC/DC Converter
VALUE2: LTC3250-1.2; SPICEMODEL: LTC3250-1.2.sub; SPICEPREFIX: X
footprint SOT6(S6)
pins: 1 VIN, 2 GND, 3 !SHND, 4 C-, 5 VOUT, 6 C+

## LTC3250-1.5
designator IC?, comment High Efficiency, Low Noise, Inductorless Step-Down DC/DC Converter
VALUE2: LTC3250-1.5; SPICEMODEL: LTC3250-1.5.sub; SPICEPREFIX: X
footprint SOT6(S6)
pins: 1 VIN, 2 GND, 3 !SHND, 4 C-, 5 VOUT, 6 C+

## LTC3251
designator IC?, comment 500mA High Efficiency, Low Noise, Inductorless Step-Down DC/DC Converters
VALUE2: LTC3251; SPICEMODEL: LTC3251.sub; SPICEPREFIX: X
footprint MSOP10(MSE)
pins: 1 MD0, 2 VIN, 3 C1+, 4 C1-, 5 11 GND, 6 C2-, 7 VOUT, 8 C2+, 9 MD1, 10 FB

## LTC3252
designator IC?, comment LT-Spice library generated with : ltspice.ulp from: D:/Program Files (x86)/LTC/LTspiceIV/lib/sym/PowerProducts/LTC3400-1*.asy at 07.10.2012 18:01:11
VALUE2: LTC3252; SPICEMODEL: LTC3252.sub; SPICEPREFIX: X
footprint DFN12(DE)
pins: 1 FB1, 2 EN1, 3 VIN, 4 C1+, 5 OUT1, 6 C1-, 7 13 GND, 8 C2-, 9 OUT2, 10 C2+, 11 EN2, 12 FB2

## LTC3400
designator IC?, comment 600mA, 1.2MHz Micropower Synchronous Boost Converters in ThinSOT
VALUE2: LTC3400; SPICEMODEL: LTC3400.sub; SPICEPREFIX: X
footprint SOT6(S6)
pins: 1 SW, 2 GND, 3 FB, 4 !SHDN, 5 VOUT, 6 VIN

## LTC3400-1
designator IC?, comment 600mA, 1.2MHz Micropower Synchronous Boost Converter in ThinSOT
VALUE2: LTC3400-1; SPICEMODEL: LTC3400-1.sub; SPICEPREFIX: X
footprint SOT6(S6)
pins: 1 SW, 2 GND, 3 FB, 4 !SHDN, 5 VOUT, 6 VIN

## LTC3400B
designator IC?, comment LT-Spice library generated with : ltspice.ulp from: D:/Program Files (x86)/LTC/LTspiceIV/lib/sym/PowerProducts/LTC3401*.asy at 07.10.2012 18:01:32
VALUE2: LTC3400B; SPICEMODEL: LTC3400B.sub; SPICEPREFIX: X
footprint SOT6(S6)
pins: 1 SW, 2 GND, 3 FB, 4 !SHDN, 5 VOUT, 6 VIN

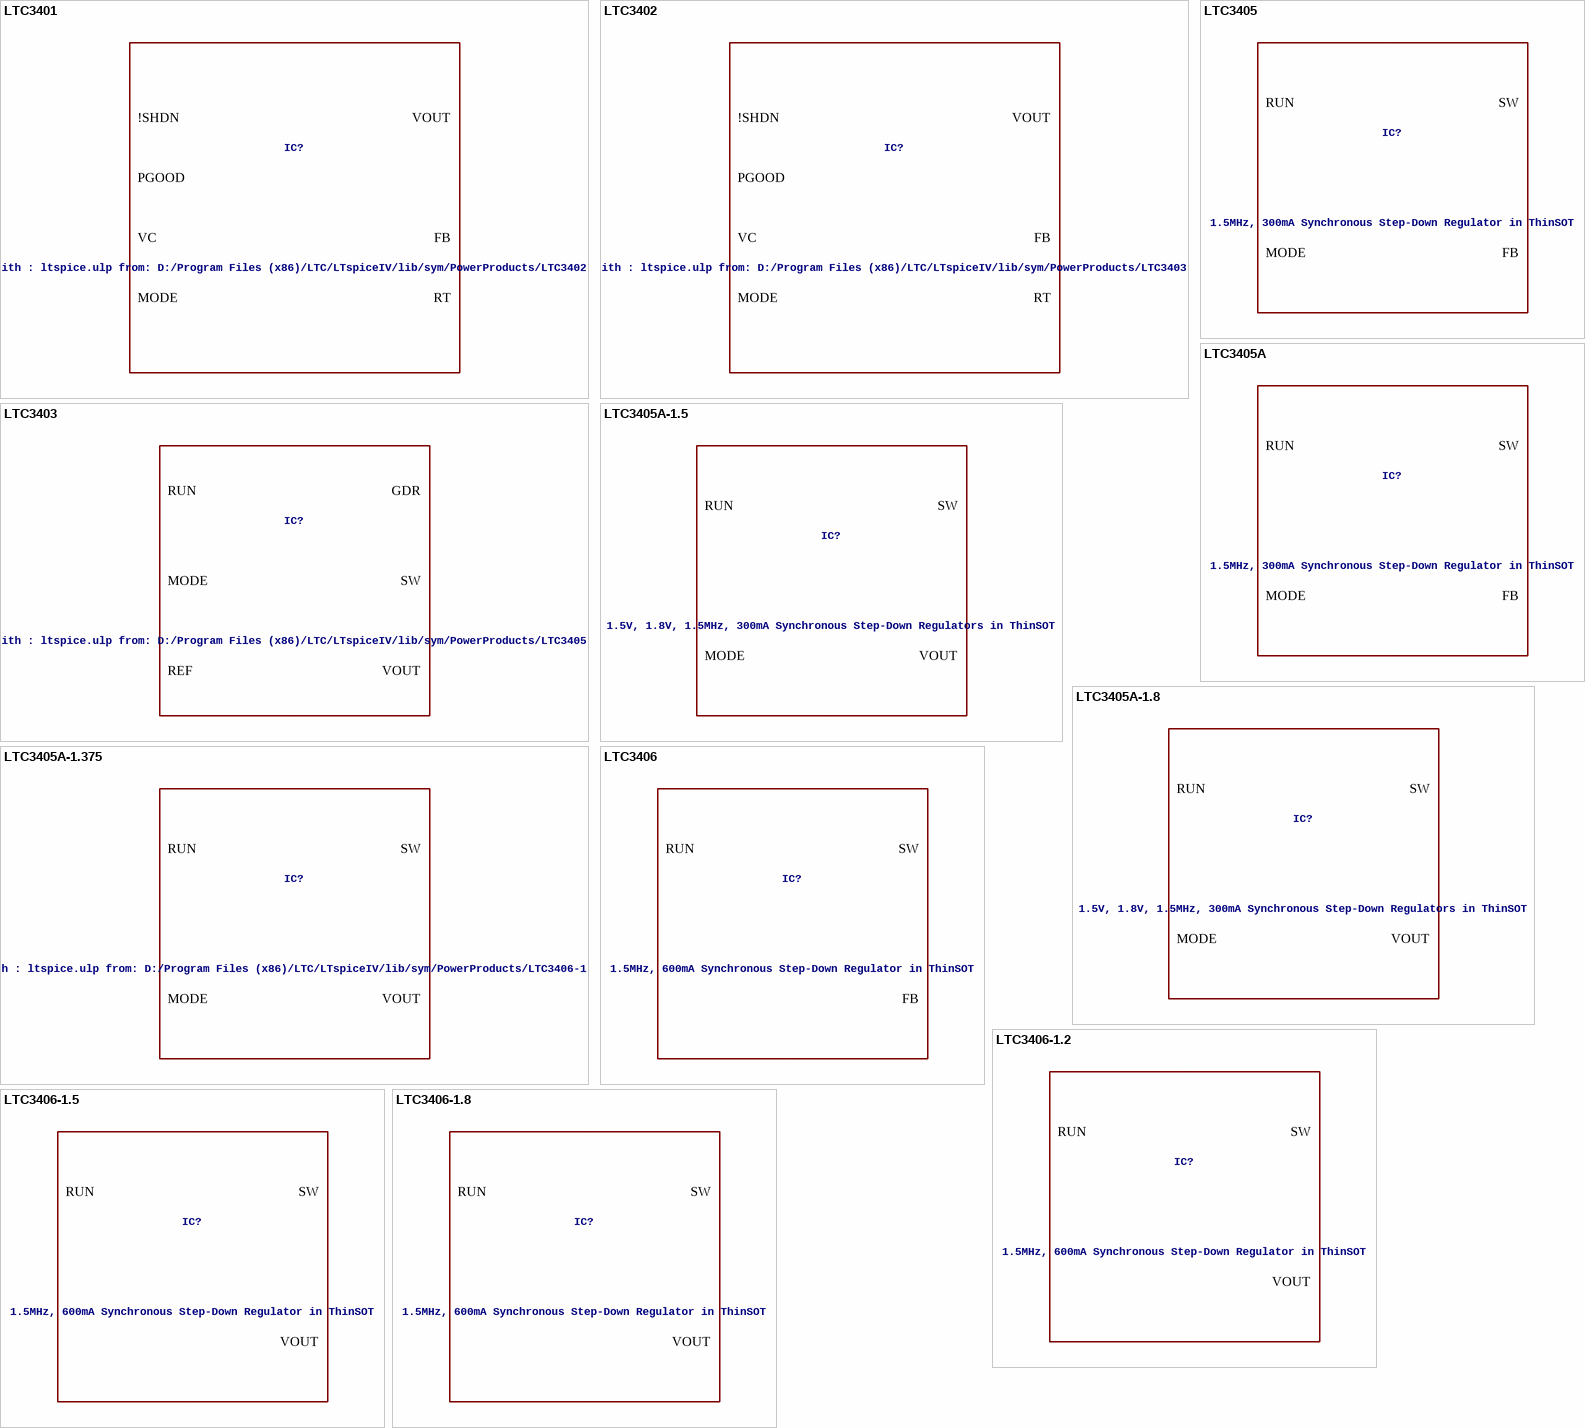
[diagram p39: symbols LTC3401 to LTC3406-1.8]

## LTC3401
designator IC?, comment LT-Spice library generated with : ltspice.ulp from: D:/Program Files (x86)/LTC/LTspiceIV/lib/sym/PowerProducts/LTC3402*.asy at 07.10.2012 18:01:38
VALUE2: LTC3401; SPICEMODEL: LTC3401.sub; SPICEPREFIX: X
footprint MSOP10(MS)
pins: 1 RT, 2 MODE, 3 VIN, 4 SW, 5 GND, 6 PGOOD, 7 VOUT, 8 FB, 9 VC, 10 !SHDN

## LTC3402
designator IC?, comment LT-Spice library generated with : ltspice.ulp from: D:/Program Files (x86)/LTC/LTspiceIV/lib/sym/PowerProducts/LTC3403*.asy at 07.10.2012 18:01:58
VALUE2: LTC3402; SPICEMODEL: LTC3402.sub; SPICEPREFIX: X
footprint MSOP10(MS)
pins: 1 RT, 2 MODE, 3 VIN, 4 SW, 5 GND, 6 PGOOD, 7 VOUT, 8 FB, 9 VC, 10 !SHDN

## LTC3403
designator IC?, comment LT-Spice library generated with : ltspice.ulp from: D:/Program Files (x86)/LTC/LTspiceIV/lib/sym/PowerProducts/LTC3405*.asy at 07.10.2012 18:02:09
VALUE2: LTC3403; SPICEMODEL: LTC3403.sub; SPICEPREFIX: X
footprint DFN8(DD)
pins: 1 GDR, 2 VIN, 3 9 GND, 4 SW, 5 RUN, 6 MODE, 7 REF, 8 VOUT

## LTC3405
designator IC?, comment 1.5MHz, 300mA Synchronous Step-Down Regulator in ThinSOT
VALUE2: LTC3405; SPICEMODEL: LTC3405.sub; SPICEPREFIX: X
footprint SOT6(S6)
pins: 1 RUN, 2 GND, 3 SW, 4 VIN, 5 FB, 6 MODE

## LTC3405A
designator IC?, comment 1.5MHz, 300mA Synchronous Step-Down Regulator in ThinSOT
VALUE2: LTC3405A; SPICEMODEL: LTC3405A.sub; SPICEPREFIX: X
footprint SOT6(S6)
pins: 1 RUN, 2 GND, 3 SW, 4 VIN, 5 FB, 6 MODE

## LTC3405A-1.5
designator IC?, comment 1.5V, 1.8V, 1.5MHz, 300mA Synchronous Step-Down Regulators in ThinSOT
VALUE2: LTC3405A-x.x top=110K bot=440K; SPICEMODEL: LTC3405A-x.x.sub; SPICEPREFIX: X
footprint SOT6(S6)
pins: 1 RUN, 2 GND, 3 SW, 4 VIN, 5 VOUT, 6 MODE

## LTC3405A-1.8
designator IC?, comment 1.5V, 1.8V, 1.5MHz, 300mA Synchronous Step-Down Regulators in ThinSOT
VALUE2: LTC3405A-x.x top=180K bot=360K; SPICEMODEL: LTC3405A-x.x.sub; SPICEPREFIX: X
footprint SOT6(S6)
pins: 1 RUN, 2 GND, 3 SW, 4 VIN, 5 VOUT, 6 MODE

## LTC3405A-1.375
designator IC?, comment LT-Spice library generated with : ltspice.ulp from: D:/Program Files (x86)/LTC/LTspiceIV/lib/sym/PowerProducts/LTC3406-1.2*.asy at 07.10.2012 18:02:31
VALUE2: LTC3405A-x.x top=64.1K bot=440K; SPICEMODEL: LTC3405A-x.x.sub; SPICEPREFIX: X
footprint SOT6(S6)
pins: 1 RUN, 2 GND, 3 SW, 4 VIN, 5 VOUT, 6 MODE

## LTC3406
designator IC?, comment 1.5MHz, 600mA Synchronous Step-Down Regulator in ThinSOT
VALUE2: LTC3406; SPICEMODEL: LTC3406.sub; SPICEPREFIX: X
footprint SOT5(S5)
pins: 1 RUN, 2 GND, 3 SW, 4 VIN, 5 FB

## LTC3406-1.2
designator IC?, comment 1.5MHz, 600mA Synchronous Step-Down Regulator in ThinSOT
VALUE2: LTC3406-x.x top=217K bot=220K; SPICEMODEL: LTC3406-x.x.sub; SPICEPREFIX: X
footprint SOT5(S5)
pins: 1 RUN, 2 GND, 3 SW, 4 VIN, 5 VOUT

## LTC3406-1.5
designator IC?, comment 1.5MHz, 600mA Synchronous Step-Down Regulator in ThinSOT
VALUE2: LTC3406-x.x top=330K bot=220K; SPICEMODEL: LTC3406-x.x.sub; SPICEPREFIX: X
footprint SOT5(S5)
pins: 1 RUN, 2 GND, 3 SW, 4 VIN, 5 VOUT

## LTC3406-1.8
designator IC?, comment 1.5MHz, 600mA Synchronous Step-Down Regulator in ThinSOT
VALUE2: LTC3406-x.x top=360K bot=180K; SPICEMODEL: LTC3406-x.x.sub; SPICEPREFIX: X
footprint SOT5(S5)
pins: 1 RUN, 2 GND, 3 SW, 4 VIN, 5 VOUT

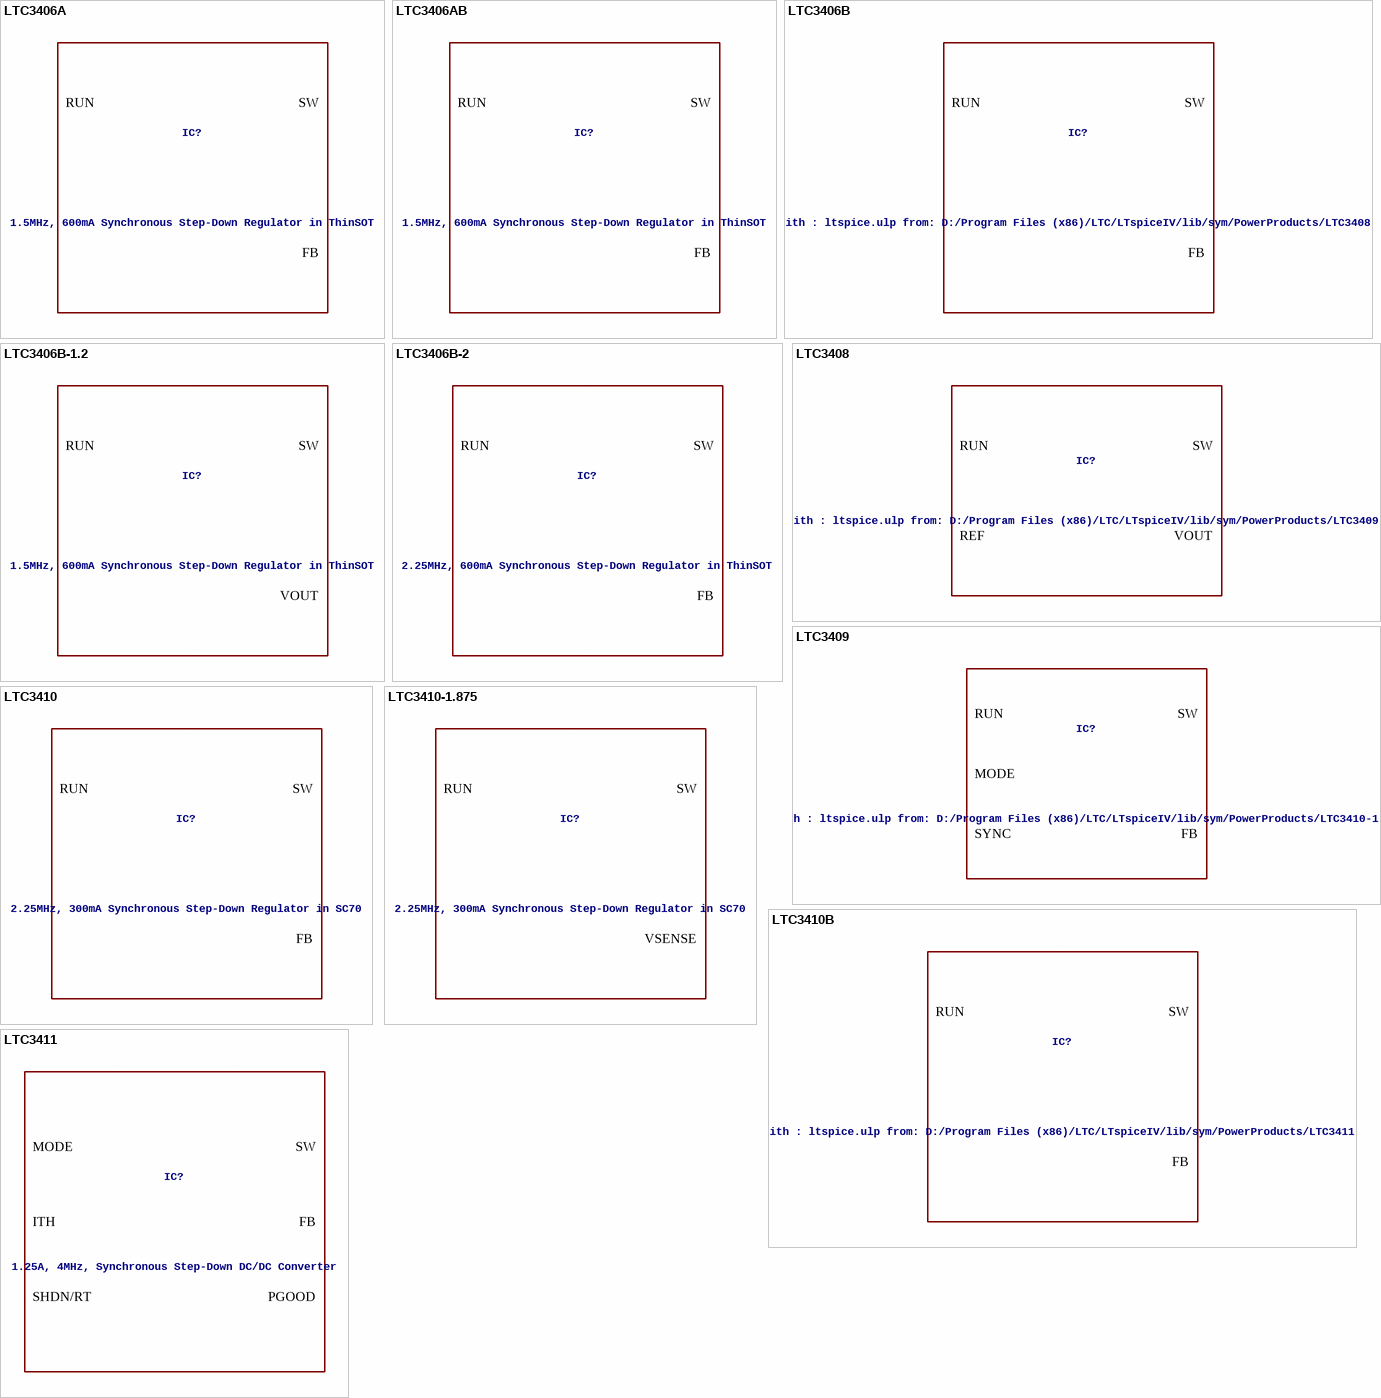
[diagram p40: symbols LTC3406A to LTC3411]

## LTC3406A
designator IC?, comment 1.5MHz, 600mA Synchronous Step-Down Regulator in ThinSOT
VALUE2: LTC3406A; SPICEMODEL: LTC3406A.sub; SPICEPREFIX: X
footprint SOT5(S5)
pins: 1 RUN, 2 GND, 3 SW, 4 VIN, 5 FB

## LTC3406AB
designator IC?, comment 1.5MHz, 600mA Synchronous Step-Down Regulator in ThinSOT
VALUE2: LTC3406AB; SPICEMODEL: LTC3406AB.sub; SPICEPREFIX: X
footprint SOT5(S5)
pins: 1 RUN, 2 GND, 3 SW, 4 VIN, 5 FB

## LTC3406B
designator IC?, comment LT-Spice library generated with : ltspice.ulp from: D:/Program Files (x86)/LTC/LTspiceIV/lib/sym/PowerProducts/LTC3408*.asy at 07.10.2012 18:02:44
VALUE2: LTC3406B; SPICEMODEL: LTC3406B.sub; SPICEPREFIX: X
footprint SOT5(S5)
pins: 1 RUN, 2 GND, 3 SW, 4 VIN, 5 FB

## LTC3406B-1.2
designator IC?, comment 1.5MHz, 600mA Synchronous Step-Down Regulator in ThinSOT
VALUE2: LTC3406B-1.2; SPICEMODEL: LTC3406B-1.2.sub; SPICEPREFIX: X
footprint SOT5(S5)
pins: 1 RUN, 2 GND, 3 SW, 4 VIN, 5 VOUT

## LTC3406B-2
designator IC?, comment 2.25MHz, 600mA Synchronous Step-Down Regulator in ThinSOT
VALUE2: LTC3406B-2; SPICEMODEL: LTC3406B-2.sub; SPICEPREFIX: X
footprint SOT5(S5)
pins: 1 RUN, 2 GND, 3 SW, 4 VIN, 5 FB

## LTC3408
designator IC?, comment LT-Spice library generated with : ltspice.ulp from: D:/Program Files (x86)/LTC/LTspiceIV/lib/sym/PowerProducts/LTC3409*.asy at 07.10.2012 18:02:50
VALUE2: LTC3408; SPICEMODEL: LTC3408.sub; SPICEPREFIX: X
footprint DFN8(DD)
pins: 1 8 VOUT, 2 7 VIN, 3 9 GND, 4 SW, 5 RUN, 6 REF

## LTC3409
designator IC?, comment LT-Spice library generated with : ltspice.ulp from: D:/Program Files (x86)/LTC/LTspiceIV/lib/sym/PowerProducts/LTC3410-1.2*.asy at 07.10.2012 18:02:58
VALUE2: LTC3409; SPICEMODEL: LTC3409.sub; SPICEPREFIX: X
footprint DFN8(DD)
pins: 1 FB, 2 9 GND, 3 4 VIN, 5 MODE, 6 SW, 7 RUN, 8 SYNC

## LTC3410
designator IC?, comment 2.25MHz, 300mA Synchronous Step-Down Regulator in SC70
VALUE2: LTC3410; SPICEMODEL: LTC3410.sub; SPICEPREFIX: X
footprint SOT6(SC6)
pins: 1 RUN, 2 5 GND, 3 SW, 4 VIN, 6 FB

## LTC3410-1.875
designator IC?, comment 2.25MHz, 300mA Synchronous Step-Down Regulator in SC70
VALUE2: LTC3410-x.x top=484K bot=360K; SPICEMODEL: LTC3410-x.x.sub; SPICEPREFIX: X
footprint SOT6(SC6)
pins: 1 RUN, 2 5 GND, 3 SW, 4 VIN, 6 VSENSE

## LTC3410B
designator IC?, comment LT-Spice library generated with : ltspice.ulp from: D:/Program Files (x86)/LTC/LTspiceIV/lib/sym/PowerProducts/LTC3411*.asy at 07.10.2012 18:03:11
VALUE2: LTC3410B; SPICEMODEL: LTC3410B.sub; SPICEPREFIX: X
footprint SOT6(SC6)
pins: 1 RUN, 2 5 GND, 3 SW, 4 VIN, 6 FB

## LTC3411
designator IC?, comment 1.25A, 4MHz, Synchronous Step-Down DC/DC Converter
VALUE2: LTC3411; SPICEMODEL: LTC3411.sub; SPICEPREFIX: X
footprint DFN10(DD)
pins: 1 SHDN/RT, 2 MODE, 3 11 SGND, 4 SW, 5 PGND, 6 PVIN, 7 SVIN, 8 PGOOD, 9 FB, 10 ITH

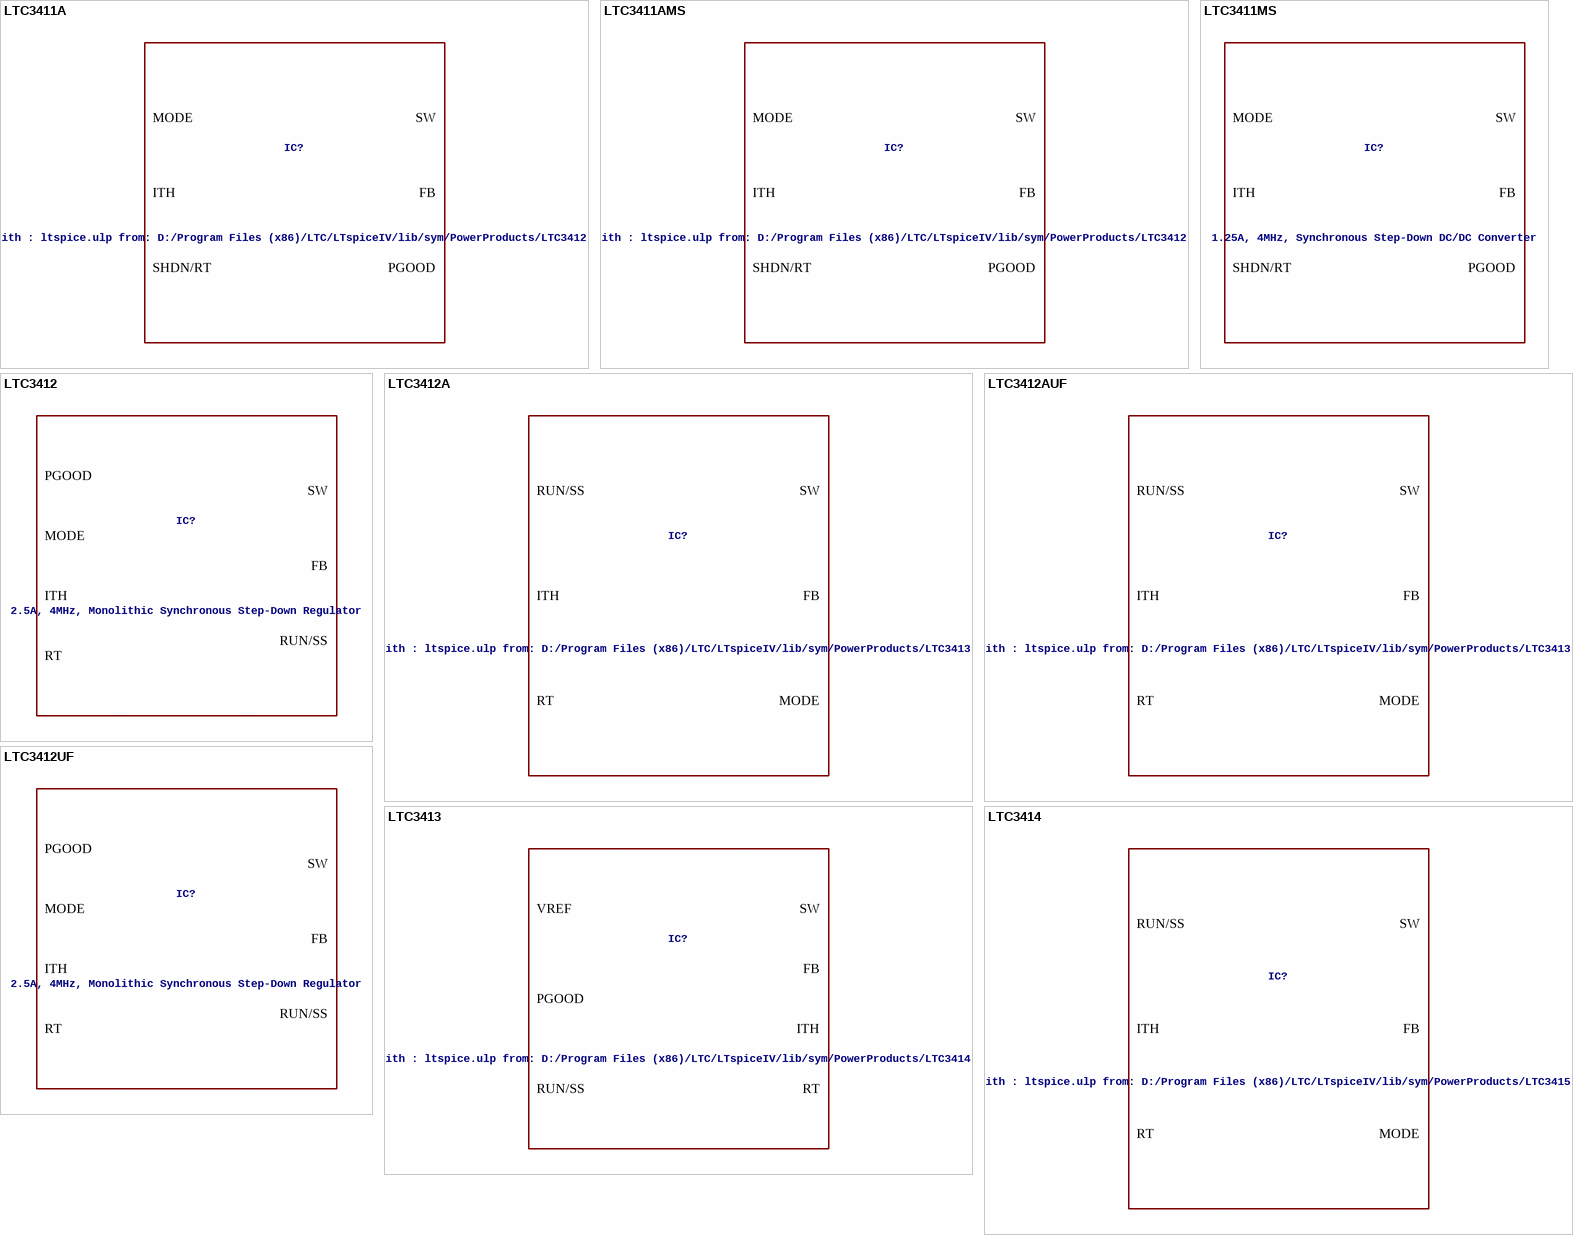
[diagram p41: symbols LTC3411A to LTC3414]

## LTC3411A
designator IC?, comment LT-Spice library generated with : ltspice.ulp from: D:/Program Files (x86)/LTC/LTspiceIV/lib/sym/PowerProducts/LTC3412*.asy at 07.10.2012 18:03:21
VALUE2: LTC3411A; SPICEMODEL: LTC3411A.sub; SPICEPREFIX: X
footprint DFN10(DD)
pins: 1 SHDN/RT, 2 MODE, 3 11 SGND, 4 SW, 5 PGND, 6 PVIN, 7 SVIN, 8 PGOOD, 9 FB, 10 ITH

## LTC3411AMS
designator IC?, comment LT-Spice library generated with : ltspice.ulp from: D:/Program Files (x86)/LTC/LTspiceIV/lib/sym/PowerProducts/LTC3412*.asy at 07.10.2012 18:03:21
VALUE2: LTC3411A; SPICEMODEL: LTC3411A.sub; SPICEPREFIX: X
footprint MSOP10(MS)
pins: 1 SHDN/RT, 2 MODE, 3 SGND, 4 SW, 5 PGND, 6 PVIN, 7 SVIN, 8 PGOOD, 9 FB, 10 ITH

## LTC3411MS
designator IC?, comment 1.25A, 4MHz, Synchronous Step-Down DC/DC Converter
VALUE2: LTC3411; SPICEMODEL: LTC3411.sub; SPICEPREFIX: X
footprint MSOP10(MS)
pins: 1 SHDN/RT, 2 MODE, 3 SGND, 4 SW, 5 PGND, 6 PVIN, 7 SVIN, 8 PGOOD, 9 FB, 10 ITH

## LTC3412
designator IC?, comment 2.5A, 4MHz, Monolithic Synchronous Step-Down Regulator
VALUE2: LTC3412; SPICEMODEL: LTC3412.sub; SPICEPREFIX: X
footprint TSSOP16BA(FE)
pins: 1 SVIN, 2 PGOOD, 3 ITH, 4 FB, 5 RT, 6 MODE, 7 RUN/SS, 8 17 SGND, 9 16 PVIN, 10 11 14 15 SW, 12 13 PGND

## LTC3412A
designator IC?, comment LT-Spice library generated with : ltspice.ulp from: D:/Program Files (x86)/LTC/LTspiceIV/lib/sym/PowerProducts/LTC3413*.asy at 07.10.2012 18:03:33
VALUE2: LTC3412A; SPICEMODEL: LTC3412A.sub; SPICEPREFIX: X
footprint TSSOP16BA(FE)
pins: 1 SVIN, 2 PGOOD, 3 ITH, 4 FB, 5 RT, 6 MODE, 7 RUN/SS, 8 17 SGND, 9 16 PVIN, 10 11 14 15 SW, 12 13 PGND

## LTC3412AUF
designator IC?, comment LT-Spice library generated with : ltspice.ulp from: D:/Program Files (x86)/LTC/LTspiceIV/lib/sym/PowerProducts/LTC3413*.asy at 07.10.2012 18:03:33
VALUE2: LTC3412A; SPICEMODEL: LTC3412A.sub; SPICEPREFIX: X
footprint QFN16(UF)
pins: 1 RUN/SS, 2 17 SGND, 3 10 PVIN, 4 5 8 9 SW, 6 7 PGND, 11 SVIN, 12 PGOOD, 13 ITH, 14 FB, 15 RT, 16 MODE

## LTC3412UF
designator IC?, comment 2.5A, 4MHz, Monolithic Synchronous Step-Down Regulator
VALUE2: LTC3412; SPICEMODEL: LTC3412.sub; SPICEPREFIX: X
footprint QFN16(UF)
pins: 1 RUN/SS, 2 17 SGND, 3 10 PVIN, 4 5 8 9 SW, 6 7 PGND, 11 SVIN, 12 PGOOD, 13 ITH, 14 FB, 15 RT, 16 MODE

## LTC3413
designator IC?, comment LT-Spice library generated with : ltspice.ulp from: D:/Program Files (x86)/LTC/LTspiceIV/lib/sym/PowerProducts/LTC3414*.asy at 07.10.2012 18:03:45
VALUE2: LTC3413; SPICEMODEL: LTC3413.sub; SPICEPREFIX: X
footprint TSSOP16BA(FE)
pins: 1 SVIN, 2 PGOOD, 3 ITH, 4 FB, 5 RT, 6 VREF, 7 RUN/SS, 8 SGND, 9 16 PVIN, 10 11 14 15 SW, 12 13 17 PGND

## LTC3414
designator IC?, comment LT-Spice library generated with : ltspice.ulp from: D:/Program Files (x86)/LTC/LTspiceIV/lib/sym/PowerProducts/LTC3415*.asy at 07.10.2012 18:03:56
VALUE2: LTC3414; SPICEMODEL: LTC3414.sub; SPICEPREFIX: X
footprint TSSOP20CA(FE)
pins: 1 10 11 20 PGND, 2 RT, 3 MODE, 4 RUN/SS, 5 21 SGND, 7 14 PVIN, 8 9 12 13 SW, 16 SVIN, 17 PGOOD, 18 ITH, 19 FB

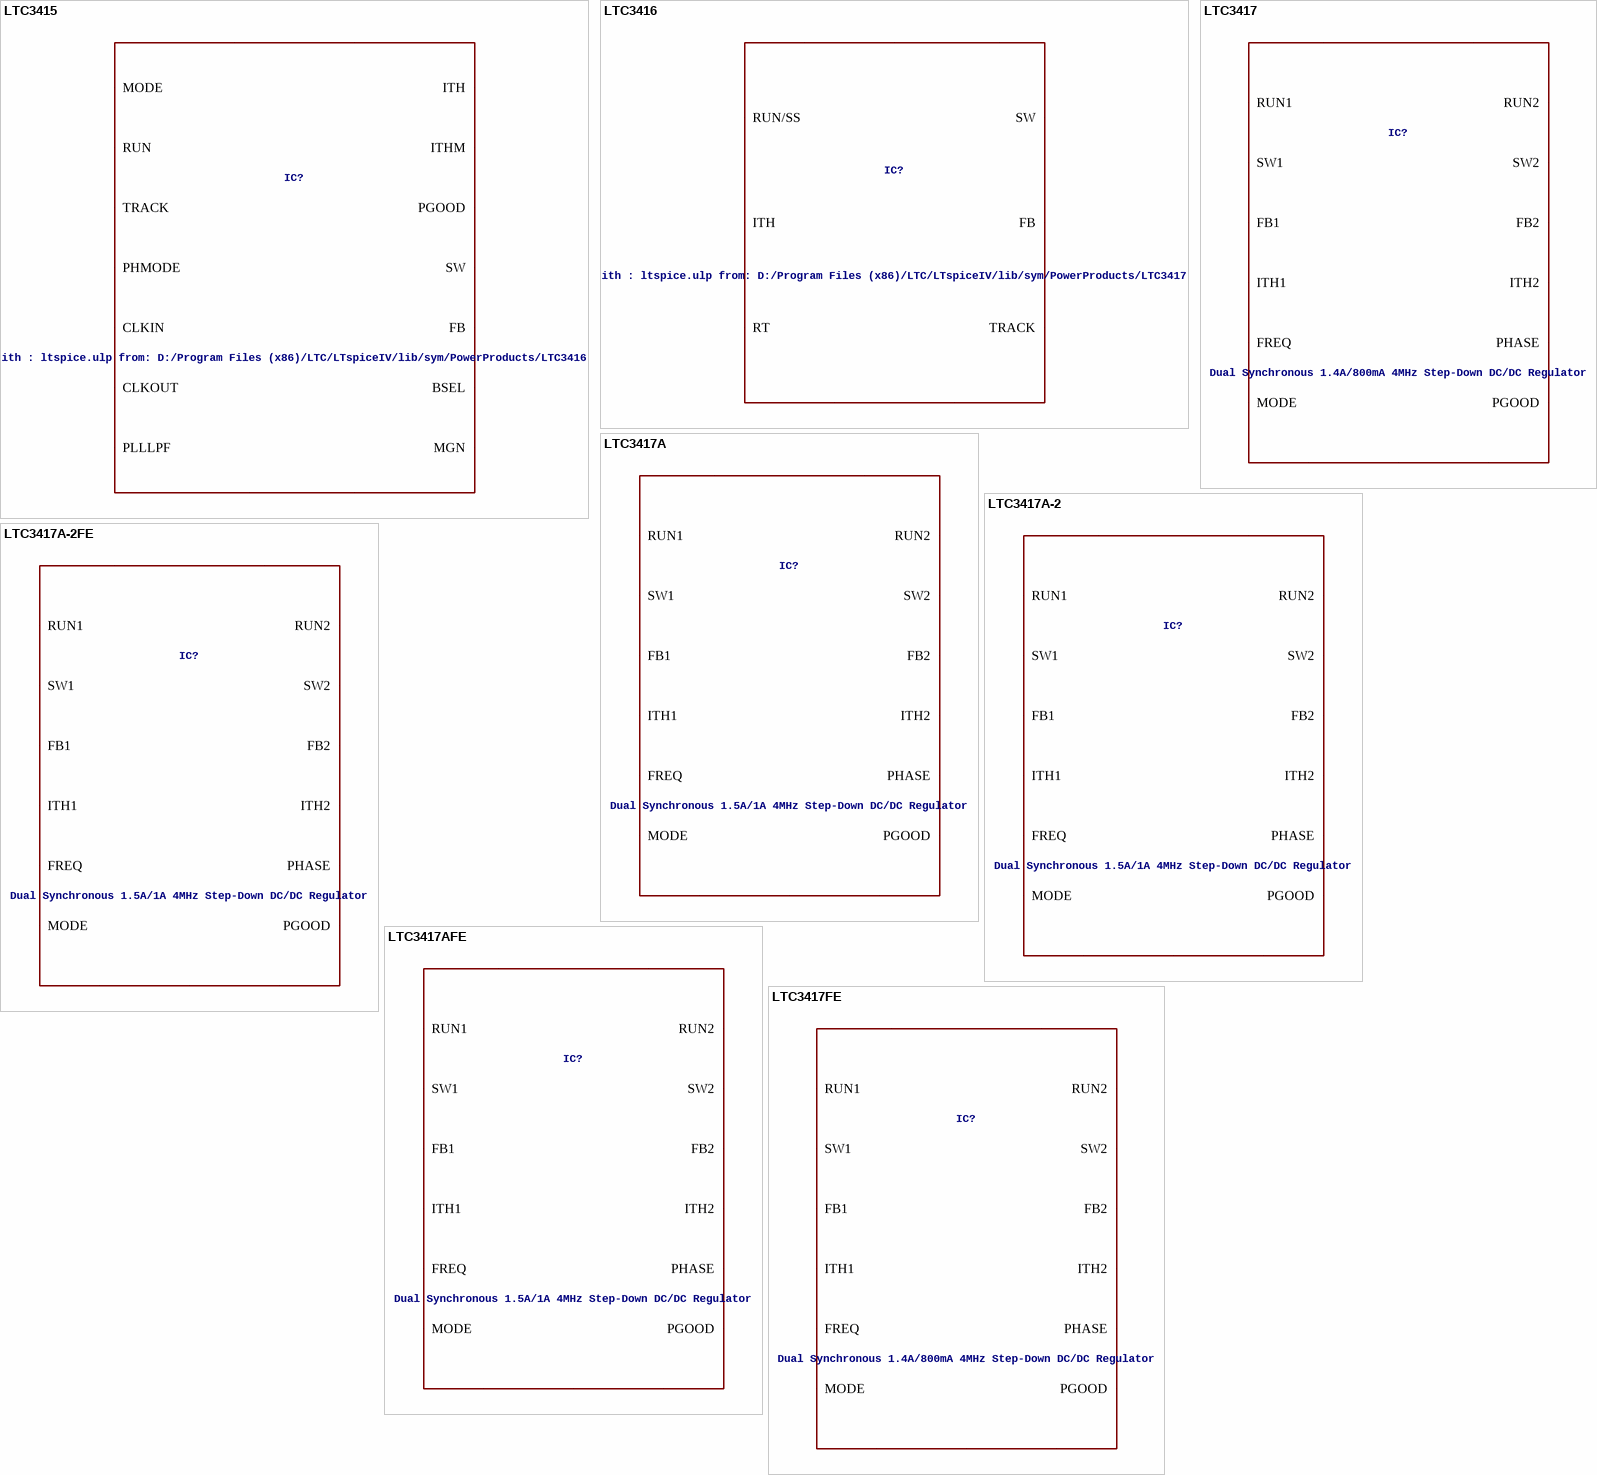
[diagram p42: symbols LTC3415 to LTC3417FE]

## LTC3415
designator IC?, comment LT-Spice library generated with : ltspice.ulp from: D:/Program Files (x86)/LTC/LTspiceIV/lib/sym/PowerProducts/LTC3416*.asy at 07.10.2012 18:04:01
VALUE2: LTC3415; SPICEMODEL: LTC3415.sub; SPICEPREFIX: X
footprint QFN38(UHF)
pins: 2 SGND, 3 PLLLPF, 4 5 27 28 35 36 PVIN, 6 7 8 9 23 24 25 26 SW, 10 MODE, 11 CLKIN, 12 PHMODE, 13 14 15 16 17 18 19 39 PGND, 20 MGN, 21 BSEL, 22 PGOOD, 29 FB, 30 TRACK, 32 ITH, 33 ITHM, 34 SVIN, 37 RUN, 38 CLKOUT

## LTC3416
designator IC?, comment LT-Spice library generated with : ltspice.ulp from: D:/Program Files (x86)/LTC/LTspiceIV/lib/sym/PowerProducts/LTC3417*.asy at 07.10.2012 18:04:07
VALUE2: LTC3416; SPICEMODEL: LTC3416.sub; SPICEPREFIX: X
footprint TSSOP20CA(FE)
pins: 1 10 11 20 PGND, 2 RT, 3 TRACK, 4 RUN/SS, 5 21 SGND, 7 14 PVIN, 8 9 12 13 SW, 16 SVIN, 17 PGOOD, 18 ITH, 19 FB

## LTC3417
designator IC?, comment Dual Synchronous 1.4A/800mA 4MHz Step-Down DC/DC Regulator
VALUE2: LTC3417; SPICEMODEL: LTC3417.sub; SPICEPREFIX: X
footprint DFN16(DHC)
pins: 1 RUN1, 2 VIN1, 3 ITH1, 4 FB1, 5 FB2, 6 ITH2, 7 RUN2, 8 VIN2, 9 MODE, 10 SW2, 11 PGOOD, 12 FREQ, 13 GNDA, 14 PHASE, 15 SW1, 16 PGND1, 17 PGND2

## LTC3417A
designator IC?, comment Dual Synchronous 1.5A/1A 4MHz Step-Down DC/DC Regulator
VALUE2: LTC3417A; SPICEMODEL: LTC3417A.sub; SPICEPREFIX: X
footprint DFN16(DHC)
pins: 1 RUN1, 2 VIN1, 3 ITH1, 4 FB1, 5 FB2, 6 ITH2, 7 RUN2, 8 VIN2, 9 MODE, 10 SW2, 11 PGOOD, 12 FREQ, 13 GNDA, 14 PHASE, 15 SW1, 16 PGND1, 17 PGND2

## LTC3417A-2
designator IC?, comment Dual Synchronous 1.5A/1A 4MHz Step-Down DC/DC Regulator
VALUE2: LTC3417A; SPICEMODEL: LTC3417A.sub; SPICEPREFIX: X
footprint DFN16(DHC)
pins: 1 RUN1, 2 VIN1, 3 ITH1, 4 FB1, 5 FB2, 6 ITH2, 7 RUN2, 8 VIN2, 9 MODE, 10 SW2, 11 PGOOD, 12 FREQ, 13 GNDA, 14 PHASE, 15 SW1, 16 PGND1, 17 PGND2

## LTC3417A-2FE
designator IC?, comment Dual Synchronous 1.5A/1A 4MHz Step-Down DC/DC Regulator
VALUE2: LTC3417A; SPICEMODEL: LTC3417A.sub; SPICEPREFIX: X
footprint TSSOP20CA(FE)
pins: 1 10 11 20 21 PGND2, 2 RUN1, 3 VIN1, 4 ITH1, 5 FB1, 6 FB2, 7 ITH2, 8 RUN2, 9 VIN2, 12 MODE, 13 SW2, 14 PGOOD, 15 FREQ, 16 GNDA, 17 PHASE, 18 SW1, 19 PGND1